# Altium integrated library Renesas Microcontroller R8C.IntLib: 628 symbols (part 15 of 33)
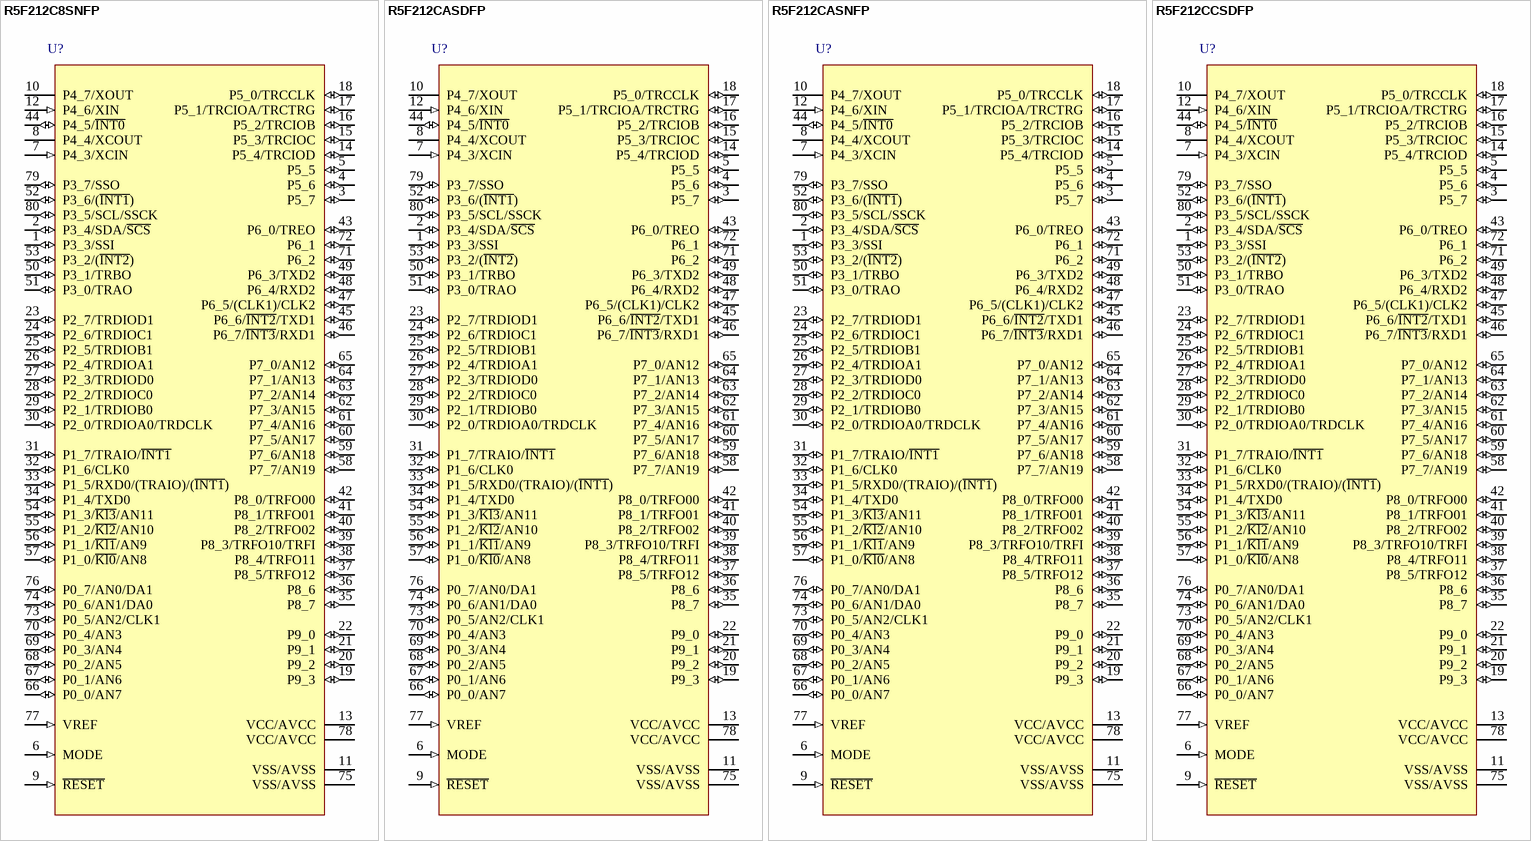
[diagram p130: symbols R5F212C8SNFP to R5F212CCSDFP]

## R5F212C8SNFP
designator U?
R8C/2C Group Single Chip 16-Bit CMOS MCU, 64K ROM, 3K RAM, N Version; Published: 30-Oct-2009; DatasheetVersion: Rev.2.10, Dec-2007; PackageVersion: Sep-2005; PackageReference: PLQP0080KB-A; Publisher: Altium Limited; PackageDescription: 80-Pin Plastic Low Profile QFP, 12 x 12 x 1.4 mm Body, 0.5 mm Pitch; Code_JEITA: P-LQFP80-12x12-0.50; Code_IPC: SQFP50P1400X1400-80; ComponentLink1Description: Manufacturer Link; ComponentLink1URL: http://sg.renesas.com/fmwk.jsp?cnt=r8c_family_landing.jsp&fp=/products/mpumcu/r8c_family/; ComponentLink2Description: Datasheet; ComponentLink2URL: http://documentation.renesas.com/eng/products/mpumcu/rej03b0183_r8c2c2dds.pdf; ComponentLink3Description: Packaging Specification; ComponentLink3URL: http://sg.renesas.com/media/products/common_info/package/pdf/ic/code/plqp0080kb_a.pdf
footprint PLQP0080KB-A_N (Shrink QFP, 80-Leads, Body 12x12mm, Pitch 0.5mm, IPC Medium Density)
footprint PLQP0080KB-A_L (Shrink QFP, 80-Leads, Body 12x12mm, Pitch 0.5mm, IPC High Density)
footprint PLQP0080KB-A_M (Shrink QFP, 80-Leads, Body 12x12mm, Pitch 0.5mm, IPC Low Density)
pins: 1 P3_3/SSI (io), 2 P3_4/SDA/~{SCS} (io), 3 P5_7 (io), 4 P5_6 (io), 5 P5_5 (io), 6 MODE (in), 7 P4_3/XCIN (in), 8 P4_4/XCOUT, 9 ~{RESET} (in), 10 P4_7/XOUT, 11 VSS/AVSS (power), 12 P4_6/XIN (in), 13 VCC/AVCC (power), 14 P5_4/TRCIOD (io), 15 P5_3/TRCIOC (io), 16 P5_2/TRCIOB (io), 17 P5_1/TRCIOA/TRCTRG (io), 18 P5_0/TRCCLK (io), 19 P9_3 (io), 20 P9_2 (io), 21 P9_1 (io), 22 P9_0 (io), 23 P2_7/TRDIOD1 (io), 24 P2_6/TRDIOC1 (io), 25 P2_5/TRDIOB1 (io), 26 P2_4/TRDIOA1 (io), 27 P2_3/TRDIOD0 (io), 28 P2_2/TRDIOC0 (io), 29 P2_1/TRDIOB0 (io), 30 P2_0/TRDIOA0/TRDCLK (io), 31 P1_7/TRAIO/~{INT1} (io), 32 P1_6/CLK0 (io), 33 P1_5/RXD0/(TRAIO)/(~{INT1}) (io), 34 P1_4/TXD0 (io), 35 P8_7 (io), 36 P8_6 (io), 37 P8_5/TRFO12 (io), 38 P8_4/TRFO11 (io), 39 P8_3/TRFO10/TRFI (io), 40 P8_2/TRFO02 (io), 41 P8_1/TRFO01 (io), 42 P8_0/TRFO00 (io), 43 P6_0/TREO (io), 44 P4_5/~{INT0} (io), 45 P6_6/~{INT2}/TXD1 (io), 46 P6_7/~{INT3}/RXD1 (io), 47 P6_5/(CLK1)/CLK2 (io), 48 P6_4/RXD2 (io), 49 P6_3/TXD2 (io), 50 P3_1/TRBO (io), 51 P3_0/TRAO (io), 52 P3_6/(~{INT1}) (io), 53 P3_2/(~{INT2}) (io), 54 P1_3/~{Kl3}/AN11 (io), 55 P1_2/~{Kl2}/AN10 (io), 56 P1_1/~{Kl1}/AN9 (io), 57 P1_0/~{Kl0}/AN8 (io), 58 P7_7/AN19 (io), 59 P7_6/AN18 (io), 60 P7_5/AN17 (io), 61 P7_4/AN16 (io), 62 P7_3/AN15 (io), 63 P7_2/AN14 (io), 64 P7_1/AN13 (io), 65 P7_0/AN12 (io), 66 P0_0/AN7 (io), 67 P0_1/AN6 (io), 68 P0_2/AN5 (io), 69 P0_3/AN4 (io), 70 P0_4/AN3 (io), 71 P6_2 (io), 72 P6_1 (io), 73 P0_5/AN2/CLK1 (io), 74 P0_6/AN1/DA0 (io), 75 VSS/AVSS (power), 76 P0_7/AN0/DA1 (io), 77 VREF (in), 78 VCC/AVCC (power), 79 P3_7/SSO (io), 80 P3_5/SCL/SSCK (io)

## R5F212CASDFP
designator U?
R8C/2C Group Single Chip 16-Bit CMOS MCU, 96K ROM, 7K RAM, D Version; Published: 30-Oct-2009; DatasheetVersion: Rev.2.10, Dec-2007; PackageVersion: Sep-2005; PackageReference: PLQP0080KB-A; Publisher: Altium Limited; PackageDescription: 80-Pin Plastic Low Profile QFP, 12 x 12 x 1.4 mm Body, 0.5 mm Pitch; Code_JEITA: P-LQFP80-12x12-0.50; Code_IPC: SQFP50P1400X1400-80; ComponentLink1Description: Manufacturer Link; ComponentLink1URL: http://sg.renesas.com/fmwk.jsp?cnt=r8c_family_landing.jsp&fp=/products/mpumcu/r8c_family/; ComponentLink2Description: Datasheet; ComponentLink2URL: http://documentation.renesas.com/eng/products/mpumcu/rej03b0183_r8c2c2dds.pdf; ComponentLink3Description: Packaging Specification; ComponentLink3URL: http://sg.renesas.com/media/products/common_info/package/pdf/ic/code/plqp0080kb_a.pdf
footprint PLQP0080KB-A_N (Shrink QFP, 80-Leads, Body 12x12mm, Pitch 0.5mm, IPC Medium Density)
footprint PLQP0080KB-A_L (Shrink QFP, 80-Leads, Body 12x12mm, Pitch 0.5mm, IPC High Density)
footprint PLQP0080KB-A_M (Shrink QFP, 80-Leads, Body 12x12mm, Pitch 0.5mm, IPC Low Density)
pins: 1 P3_3/SSI (io), 2 P3_4/SDA/~{SCS} (io), 3 P5_7 (io), 4 P5_6 (io), 5 P5_5 (io), 6 MODE (in), 7 P4_3/XCIN (in), 8 P4_4/XCOUT, 9 ~{RESET} (in), 10 P4_7/XOUT, 11 VSS/AVSS (power), 12 P4_6/XIN (in), 13 VCC/AVCC (power), 14 P5_4/TRCIOD (io), 15 P5_3/TRCIOC (io), 16 P5_2/TRCIOB (io), 17 P5_1/TRCIOA/TRCTRG (io), 18 P5_0/TRCCLK (io), 19 P9_3 (io), 20 P9_2 (io), 21 P9_1 (io), 22 P9_0 (io), 23 P2_7/TRDIOD1 (io), 24 P2_6/TRDIOC1 (io), 25 P2_5/TRDIOB1 (io), 26 P2_4/TRDIOA1 (io), 27 P2_3/TRDIOD0 (io), 28 P2_2/TRDIOC0 (io), 29 P2_1/TRDIOB0 (io), 30 P2_0/TRDIOA0/TRDCLK (io), 31 P1_7/TRAIO/~{INT1} (io), 32 P1_6/CLK0 (io), 33 P1_5/RXD0/(TRAIO)/(~{INT1}) (io), 34 P1_4/TXD0 (io), 35 P8_7 (io), 36 P8_6 (io), 37 P8_5/TRFO12 (io), 38 P8_4/TRFO11 (io), 39 P8_3/TRFO10/TRFI (io), 40 P8_2/TRFO02 (io), 41 P8_1/TRFO01 (io), 42 P8_0/TRFO00 (io), 43 P6_0/TREO (io), 44 P4_5/~{INT0} (io), 45 P6_6/~{INT2}/TXD1 (io), 46 P6_7/~{INT3}/RXD1 (io), 47 P6_5/(CLK1)/CLK2 (io), 48 P6_4/RXD2 (io), 49 P6_3/TXD2 (io), 50 P3_1/TRBO (io), 51 P3_0/TRAO (io), 52 P3_6/(~{INT1}) (io), 53 P3_2/(~{INT2}) (io), 54 P1_3/~{Kl3}/AN11 (io), 55 P1_2/~{Kl2}/AN10 (io), 56 P1_1/~{Kl1}/AN9 (io), 57 P1_0/~{Kl0}/AN8 (io), 58 P7_7/AN19 (io), 59 P7_6/AN18 (io), 60 P7_5/AN17 (io), 61 P7_4/AN16 (io), 62 P7_3/AN15 (io), 63 P7_2/AN14 (io), 64 P7_1/AN13 (io), 65 P7_0/AN12 (io), 66 P0_0/AN7 (io), 67 P0_1/AN6 (io), 68 P0_2/AN5 (io), 69 P0_3/AN4 (io), 70 P0_4/AN3 (io), 71 P6_2 (io), 72 P6_1 (io), 73 P0_5/AN2/CLK1 (io), 74 P0_6/AN1/DA0 (io), 75 VSS/AVSS (power), 76 P0_7/AN0/DA1 (io), 77 VREF (in), 78 VCC/AVCC (power), 79 P3_7/SSO (io), 80 P3_5/SCL/SSCK (io)

## R5F212CASNFP
designator U?
R8C/2C Group Single Chip 16-Bit CMOS MCU, 96K ROM, 7K RAM, N Version; Published: 30-Oct-2009; DatasheetVersion: Rev.2.10, Dec-2007; PackageVersion: Sep-2005; PackageReference: PLQP0080KB-A; Publisher: Altium Limited; PackageDescription: 80-Pin Plastic Low Profile QFP, 12 x 12 x 1.4 mm Body, 0.5 mm Pitch; Code_JEITA: P-LQFP80-12x12-0.50; Code_IPC: SQFP50P1400X1400-80; ComponentLink1Description: Manufacturer Link; ComponentLink1URL: http://sg.renesas.com/fmwk.jsp?cnt=r8c_family_landing.jsp&fp=/products/mpumcu/r8c_family/; ComponentLink2Description: Datasheet; ComponentLink2URL: http://documentation.renesas.com/eng/products/mpumcu/rej03b0183_r8c2c2dds.pdf; ComponentLink3Description: Packaging Specification; ComponentLink3URL: http://sg.renesas.com/media/products/common_info/package/pdf/ic/code/plqp0080kb_a.pdf
footprint PLQP0080KB-A_N (Shrink QFP, 80-Leads, Body 12x12mm, Pitch 0.5mm, IPC Medium Density)
footprint PLQP0080KB-A_L (Shrink QFP, 80-Leads, Body 12x12mm, Pitch 0.5mm, IPC High Density)
footprint PLQP0080KB-A_M (Shrink QFP, 80-Leads, Body 12x12mm, Pitch 0.5mm, IPC Low Density)
pins: 1 P3_3/SSI (io), 2 P3_4/SDA/~{SCS} (io), 3 P5_7 (io), 4 P5_6 (io), 5 P5_5 (io), 6 MODE (in), 7 P4_3/XCIN (in), 8 P4_4/XCOUT, 9 ~{RESET} (in), 10 P4_7/XOUT, 11 VSS/AVSS (power), 12 P4_6/XIN (in), 13 VCC/AVCC (power), 14 P5_4/TRCIOD (io), 15 P5_3/TRCIOC (io), 16 P5_2/TRCIOB (io), 17 P5_1/TRCIOA/TRCTRG (io), 18 P5_0/TRCCLK (io), 19 P9_3 (io), 20 P9_2 (io), 21 P9_1 (io), 22 P9_0 (io), 23 P2_7/TRDIOD1 (io), 24 P2_6/TRDIOC1 (io), 25 P2_5/TRDIOB1 (io), 26 P2_4/TRDIOA1 (io), 27 P2_3/TRDIOD0 (io), 28 P2_2/TRDIOC0 (io), 29 P2_1/TRDIOB0 (io), 30 P2_0/TRDIOA0/TRDCLK (io), 31 P1_7/TRAIO/~{INT1} (io), 32 P1_6/CLK0 (io), 33 P1_5/RXD0/(TRAIO)/(~{INT1}) (io), 34 P1_4/TXD0 (io), 35 P8_7 (io), 36 P8_6 (io), 37 P8_5/TRFO12 (io), 38 P8_4/TRFO11 (io), 39 P8_3/TRFO10/TRFI (io), 40 P8_2/TRFO02 (io), 41 P8_1/TRFO01 (io), 42 P8_0/TRFO00 (io), 43 P6_0/TREO (io), 44 P4_5/~{INT0} (io), 45 P6_6/~{INT2}/TXD1 (io), 46 P6_7/~{INT3}/RXD1 (io), 47 P6_5/(CLK1)/CLK2 (io), 48 P6_4/RXD2 (io), 49 P6_3/TXD2 (io), 50 P3_1/TRBO (io), 51 P3_0/TRAO (io), 52 P3_6/(~{INT1}) (io), 53 P3_2/(~{INT2}) (io), 54 P1_3/~{Kl3}/AN11 (io), 55 P1_2/~{Kl2}/AN10 (io), 56 P1_1/~{Kl1}/AN9 (io), 57 P1_0/~{Kl0}/AN8 (io), 58 P7_7/AN19 (io), 59 P7_6/AN18 (io), 60 P7_5/AN17 (io), 61 P7_4/AN16 (io), 62 P7_3/AN15 (io), 63 P7_2/AN14 (io), 64 P7_1/AN13 (io), 65 P7_0/AN12 (io), 66 P0_0/AN7 (io), 67 P0_1/AN6 (io), 68 P0_2/AN5 (io), 69 P0_3/AN4 (io), 70 P0_4/AN3 (io), 71 P6_2 (io), 72 P6_1 (io), 73 P0_5/AN2/CLK1 (io), 74 P0_6/AN1/DA0 (io), 75 VSS/AVSS (power), 76 P0_7/AN0/DA1 (io), 77 VREF (in), 78 VCC/AVCC (power), 79 P3_7/SSO (io), 80 P3_5/SCL/SSCK (io)

## R5F212CCSDFP
designator U?
R8C/2C Group Single Chip 16-Bit CMOS MCU, 128K ROM, 7.5K RAM, D Version; Published: 30-Oct-2009; DatasheetVersion: Rev.2.10, Dec-2007; PackageVersion: Sep-2005; PackageReference: PLQP0080KB-A; Publisher: Altium Limited; PackageDescription: 80-Pin Plastic Low Profile QFP, 12 x 12 x 1.4 mm Body, 0.5 mm Pitch; Code_JEITA: P-LQFP80-12x12-0.50; Code_IPC: SQFP50P1400X1400-80; ComponentLink1Description: Manufacturer Link; ComponentLink1URL: http://sg.renesas.com/fmwk.jsp?cnt=r8c_family_landing.jsp&fp=/products/mpumcu/r8c_family/; ComponentLink2Description: Datasheet; ComponentLink2URL: http://documentation.renesas.com/eng/products/mpumcu/rej03b0183_r8c2c2dds.pdf; ComponentLink3Description: Packaging Specification; ComponentLink3URL: http://sg.renesas.com/media/products/common_info/package/pdf/ic/code/plqp0080kb_a.pdf
footprint PLQP0080KB-A_N (Shrink QFP, 80-Leads, Body 12x12mm, Pitch 0.5mm, IPC Medium Density)
footprint PLQP0080KB-A_L (Shrink QFP, 80-Leads, Body 12x12mm, Pitch 0.5mm, IPC High Density)
footprint PLQP0080KB-A_M (Shrink QFP, 80-Leads, Body 12x12mm, Pitch 0.5mm, IPC Low Density)
pins: 1 P3_3/SSI (io), 2 P3_4/SDA/~{SCS} (io), 3 P5_7 (io), 4 P5_6 (io), 5 P5_5 (io), 6 MODE (in), 7 P4_3/XCIN (in), 8 P4_4/XCOUT, 9 ~{RESET} (in), 10 P4_7/XOUT, 11 VSS/AVSS (power), 12 P4_6/XIN (in), 13 VCC/AVCC (power), 14 P5_4/TRCIOD (io), 15 P5_3/TRCIOC (io), 16 P5_2/TRCIOB (io), 17 P5_1/TRCIOA/TRCTRG (io), 18 P5_0/TRCCLK (io), 19 P9_3 (io), 20 P9_2 (io), 21 P9_1 (io), 22 P9_0 (io), 23 P2_7/TRDIOD1 (io), 24 P2_6/TRDIOC1 (io), 25 P2_5/TRDIOB1 (io), 26 P2_4/TRDIOA1 (io), 27 P2_3/TRDIOD0 (io), 28 P2_2/TRDIOC0 (io), 29 P2_1/TRDIOB0 (io), 30 P2_0/TRDIOA0/TRDCLK (io), 31 P1_7/TRAIO/~{INT1} (io), 32 P1_6/CLK0 (io), 33 P1_5/RXD0/(TRAIO)/(~{INT1}) (io), 34 P1_4/TXD0 (io), 35 P8_7 (io), 36 P8_6 (io), 37 P8_5/TRFO12 (io), 38 P8_4/TRFO11 (io), 39 P8_3/TRFO10/TRFI (io), 40 P8_2/TRFO02 (io), 41 P8_1/TRFO01 (io), 42 P8_0/TRFO00 (io), 43 P6_0/TREO (io), 44 P4_5/~{INT0} (io), 45 P6_6/~{INT2}/TXD1 (io), 46 P6_7/~{INT3}/RXD1 (io), 47 P6_5/(CLK1)/CLK2 (io), 48 P6_4/RXD2 (io), 49 P6_3/TXD2 (io), 50 P3_1/TRBO (io), 51 P3_0/TRAO (io), 52 P3_6/(~{INT1}) (io), 53 P3_2/(~{INT2}) (io), 54 P1_3/~{Kl3}/AN11 (io), 55 P1_2/~{Kl2}/AN10 (io), 56 P1_1/~{Kl1}/AN9 (io), 57 P1_0/~{Kl0}/AN8 (io), 58 P7_7/AN19 (io), 59 P7_6/AN18 (io), 60 P7_5/AN17 (io), 61 P7_4/AN16 (io), 62 P7_3/AN15 (io), 63 P7_2/AN14 (io), 64 P7_1/AN13 (io), 65 P7_0/AN12 (io), 66 P0_0/AN7 (io), 67 P0_1/AN6 (io), 68 P0_2/AN5 (io), 69 P0_3/AN4 (io), 70 P0_4/AN3 (io), 71 P6_2 (io), 72 P6_1 (io), 73 P0_5/AN2/CLK1 (io), 74 P0_6/AN1/DA0 (io), 75 VSS/AVSS (power), 76 P0_7/AN0/DA1 (io), 77 VREF (in), 78 VCC/AVCC (power), 79 P3_7/SSO (io), 80 P3_5/SCL/SSCK (io)

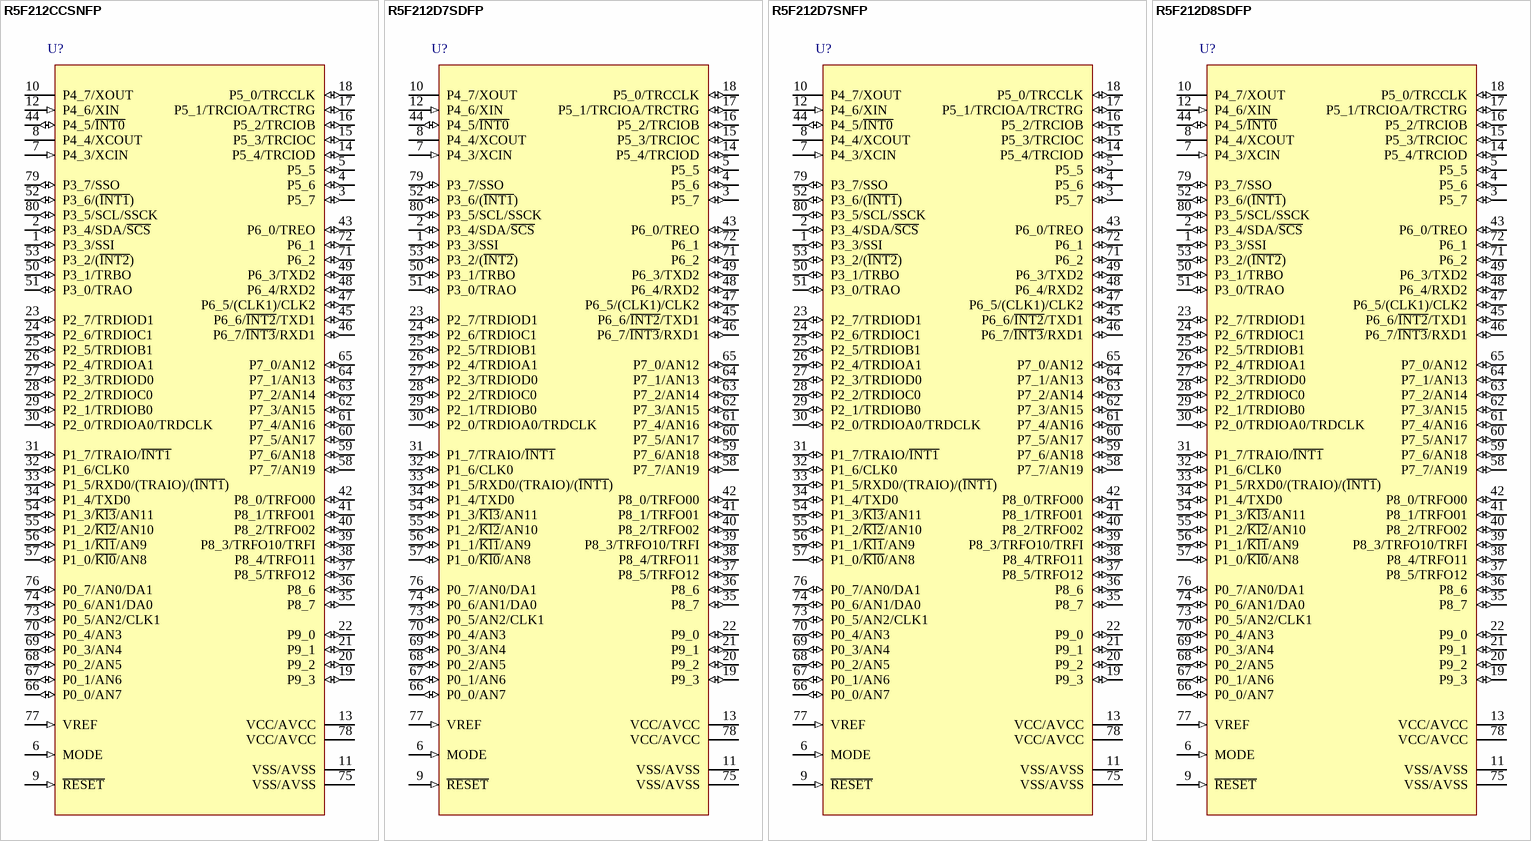
[diagram p51: symbols R5F212CCSNFP to R5F212D8SDFP]

## R5F212CCSNFP
designator U?
R8C/2C Group Single Chip 16-Bit CMOS MCU, 128K ROM, 7.5K RAM, N Version; Published: 30-Oct-2009; DatasheetVersion: Rev.2.10, Dec-2007; PackageVersion: Sep-2005; PackageReference: PLQP0080KB-A; Publisher: Altium Limited; PackageDescription: 80-Pin Plastic Low Profile QFP, 12 x 12 x 1.4 mm Body, 0.5 mm Pitch; Code_JEITA: P-LQFP80-12x12-0.50; Code_IPC: SQFP50P1400X1400-80; ComponentLink1Description: Manufacturer Link; ComponentLink1URL: http://sg.renesas.com/fmwk.jsp?cnt=r8c_family_landing.jsp&fp=/products/mpumcu/r8c_family/; ComponentLink2Description: Datasheet; ComponentLink2URL: http://documentation.renesas.com/eng/products/mpumcu/rej03b0183_r8c2c2dds.pdf; ComponentLink3Description: Packaging Specification; ComponentLink3URL: http://sg.renesas.com/media/products/common_info/package/pdf/ic/code/plqp0080kb_a.pdf
footprint PLQP0080KB-A_N (Shrink QFP, 80-Leads, Body 12x12mm, Pitch 0.5mm, IPC Medium Density)
footprint PLQP0080KB-A_L (Shrink QFP, 80-Leads, Body 12x12mm, Pitch 0.5mm, IPC High Density)
footprint PLQP0080KB-A_M (Shrink QFP, 80-Leads, Body 12x12mm, Pitch 0.5mm, IPC Low Density)
pins: 1 P3_3/SSI (io), 2 P3_4/SDA/~{SCS} (io), 3 P5_7 (io), 4 P5_6 (io), 5 P5_5 (io), 6 MODE (in), 7 P4_3/XCIN (in), 8 P4_4/XCOUT, 9 ~{RESET} (in), 10 P4_7/XOUT, 11 VSS/AVSS (power), 12 P4_6/XIN (in), 13 VCC/AVCC (power), 14 P5_4/TRCIOD (io), 15 P5_3/TRCIOC (io), 16 P5_2/TRCIOB (io), 17 P5_1/TRCIOA/TRCTRG (io), 18 P5_0/TRCCLK (io), 19 P9_3 (io), 20 P9_2 (io), 21 P9_1 (io), 22 P9_0 (io), 23 P2_7/TRDIOD1 (io), 24 P2_6/TRDIOC1 (io), 25 P2_5/TRDIOB1 (io), 26 P2_4/TRDIOA1 (io), 27 P2_3/TRDIOD0 (io), 28 P2_2/TRDIOC0 (io), 29 P2_1/TRDIOB0 (io), 30 P2_0/TRDIOA0/TRDCLK (io), 31 P1_7/TRAIO/~{INT1} (io), 32 P1_6/CLK0 (io), 33 P1_5/RXD0/(TRAIO)/(~{INT1}) (io), 34 P1_4/TXD0 (io), 35 P8_7 (io), 36 P8_6 (io), 37 P8_5/TRFO12 (io), 38 P8_4/TRFO11 (io), 39 P8_3/TRFO10/TRFI (io), 40 P8_2/TRFO02 (io), 41 P8_1/TRFO01 (io), 42 P8_0/TRFO00 (io), 43 P6_0/TREO (io), 44 P4_5/~{INT0} (io), 45 P6_6/~{INT2}/TXD1 (io), 46 P6_7/~{INT3}/RXD1 (io), 47 P6_5/(CLK1)/CLK2 (io), 48 P6_4/RXD2 (io), 49 P6_3/TXD2 (io), 50 P3_1/TRBO (io), 51 P3_0/TRAO (io), 52 P3_6/(~{INT1}) (io), 53 P3_2/(~{INT2}) (io), 54 P1_3/~{Kl3}/AN11 (io), 55 P1_2/~{Kl2}/AN10 (io), 56 P1_1/~{Kl1}/AN9 (io), 57 P1_0/~{Kl0}/AN8 (io), 58 P7_7/AN19 (io), 59 P7_6/AN18 (io), 60 P7_5/AN17 (io), 61 P7_4/AN16 (io), 62 P7_3/AN15 (io), 63 P7_2/AN14 (io), 64 P7_1/AN13 (io), 65 P7_0/AN12 (io), 66 P0_0/AN7 (io), 67 P0_1/AN6 (io), 68 P0_2/AN5 (io), 69 P0_3/AN4 (io), 70 P0_4/AN3 (io), 71 P6_2 (io), 72 P6_1 (io), 73 P0_5/AN2/CLK1 (io), 74 P0_6/AN1/DA0 (io), 75 VSS/AVSS (power), 76 P0_7/AN0/DA1 (io), 77 VREF (in), 78 VCC/AVCC (power), 79 P3_7/SSO (io), 80 P3_5/SCL/SSCK (io)

## R5F212D7SDFP
designator U?
R8C/2D Group Single Chip 16-Bit CMOS MCU, 48K ROM + 1K x2 Data Flash, 2.5K RAM, D Version; Published: 30-Oct-2009; DatasheetVersion: Rev.2.10, Dec-2007; PackageVersion: Sep-2005; PackageReference: PLQP0080KB-A; Publisher: Altium Limited; PackageDescription: 80-Pin Plastic Low Profile QFP, 12 x 12 x 1.4 mm Body, 0.5 mm Pitch; Code_JEITA: P-LQFP80-12x12-0.50; Code_IPC: SQFP50P1400X1400-80; ComponentLink1Description: Manufacturer Link; ComponentLink1URL: http://sg.renesas.com/fmwk.jsp?cnt=r8c_family_landing.jsp&fp=/products/mpumcu/r8c_family/; ComponentLink2Description: Datasheet; ComponentLink2URL: http://documentation.renesas.com/eng/products/mpumcu/rej03b0183_r8c2c2dds.pdf; ComponentLink3Description: Packaging Specification; ComponentLink3URL: http://sg.renesas.com/media/products/common_info/package/pdf/ic/code/plqp0080kb_a.pdf
footprint PLQP0080KB-A_N (Shrink QFP, 80-Leads, Body 12x12mm, Pitch 0.5mm, IPC Medium Density)
footprint PLQP0080KB-A_L (Shrink QFP, 80-Leads, Body 12x12mm, Pitch 0.5mm, IPC High Density)
footprint PLQP0080KB-A_M (Shrink QFP, 80-Leads, Body 12x12mm, Pitch 0.5mm, IPC Low Density)
pins: 1 P3_3/SSI (io), 2 P3_4/SDA/~{SCS} (io), 3 P5_7 (io), 4 P5_6 (io), 5 P5_5 (io), 6 MODE (in), 7 P4_3/XCIN (in), 8 P4_4/XCOUT, 9 ~{RESET} (in), 10 P4_7/XOUT, 11 VSS/AVSS (power), 12 P4_6/XIN (in), 13 VCC/AVCC (power), 14 P5_4/TRCIOD (io), 15 P5_3/TRCIOC (io), 16 P5_2/TRCIOB (io), 17 P5_1/TRCIOA/TRCTRG (io), 18 P5_0/TRCCLK (io), 19 P9_3 (io), 20 P9_2 (io), 21 P9_1 (io), 22 P9_0 (io), 23 P2_7/TRDIOD1 (io), 24 P2_6/TRDIOC1 (io), 25 P2_5/TRDIOB1 (io), 26 P2_4/TRDIOA1 (io), 27 P2_3/TRDIOD0 (io), 28 P2_2/TRDIOC0 (io), 29 P2_1/TRDIOB0 (io), 30 P2_0/TRDIOA0/TRDCLK (io), 31 P1_7/TRAIO/~{INT1} (io), 32 P1_6/CLK0 (io), 33 P1_5/RXD0/(TRAIO)/(~{INT1}) (io), 34 P1_4/TXD0 (io), 35 P8_7 (io), 36 P8_6 (io), 37 P8_5/TRFO12 (io), 38 P8_4/TRFO11 (io), 39 P8_3/TRFO10/TRFI (io), 40 P8_2/TRFO02 (io), 41 P8_1/TRFO01 (io), 42 P8_0/TRFO00 (io), 43 P6_0/TREO (io), 44 P4_5/~{INT0} (io), 45 P6_6/~{INT2}/TXD1 (io), 46 P6_7/~{INT3}/RXD1 (io), 47 P6_5/(CLK1)/CLK2 (io), 48 P6_4/RXD2 (io), 49 P6_3/TXD2 (io), 50 P3_1/TRBO (io), 51 P3_0/TRAO (io), 52 P3_6/(~{INT1}) (io), 53 P3_2/(~{INT2}) (io), 54 P1_3/~{Kl3}/AN11 (io), 55 P1_2/~{Kl2}/AN10 (io), 56 P1_1/~{Kl1}/AN9 (io), 57 P1_0/~{Kl0}/AN8 (io), 58 P7_7/AN19 (io), 59 P7_6/AN18 (io), 60 P7_5/AN17 (io), 61 P7_4/AN16 (io), 62 P7_3/AN15 (io), 63 P7_2/AN14 (io), 64 P7_1/AN13 (io), 65 P7_0/AN12 (io), 66 P0_0/AN7 (io), 67 P0_1/AN6 (io), 68 P0_2/AN5 (io), 69 P0_3/AN4 (io), 70 P0_4/AN3 (io), 71 P6_2 (io), 72 P6_1 (io), 73 P0_5/AN2/CLK1 (io), 74 P0_6/AN1/DA0 (io), 75 VSS/AVSS (power), 76 P0_7/AN0/DA1 (io), 77 VREF (in), 78 VCC/AVCC (power), 79 P3_7/SSO (io), 80 P3_5/SCL/SSCK (io)

## R5F212D7SNFP
designator U?
R8C/2D Group Single Chip 16-Bit CMOS MCU, 48K ROM + 1K x2 Data Flash, 2.5K RAM, N Version; Published: 30-Oct-2009; DatasheetVersion: Rev.2.10, Dec-2007; PackageVersion: Sep-2005; PackageReference: PLQP0080KB-A; Publisher: Altium Limited; PackageDescription: 80-Pin Plastic Low Profile QFP, 12 x 12 x 1.4 mm Body, 0.5 mm Pitch; Code_JEITA: P-LQFP80-12x12-0.50; Code_IPC: SQFP50P1400X1400-80; ComponentLink1Description: Manufacturer Link; ComponentLink1URL: http://sg.renesas.com/fmwk.jsp?cnt=r8c_family_landing.jsp&fp=/products/mpumcu/r8c_family/; ComponentLink2Description: Datasheet; ComponentLink2URL: http://documentation.renesas.com/eng/products/mpumcu/rej03b0183_r8c2c2dds.pdf; ComponentLink3Description: Packaging Specification; ComponentLink3URL: http://sg.renesas.com/media/products/common_info/package/pdf/ic/code/plqp0080kb_a.pdf
footprint PLQP0080KB-A_N (Shrink QFP, 80-Leads, Body 12x12mm, Pitch 0.5mm, IPC Medium Density)
footprint PLQP0080KB-A_L (Shrink QFP, 80-Leads, Body 12x12mm, Pitch 0.5mm, IPC High Density)
footprint PLQP0080KB-A_M (Shrink QFP, 80-Leads, Body 12x12mm, Pitch 0.5mm, IPC Low Density)
pins: 1 P3_3/SSI (io), 2 P3_4/SDA/~{SCS} (io), 3 P5_7 (io), 4 P5_6 (io), 5 P5_5 (io), 6 MODE (in), 7 P4_3/XCIN (in), 8 P4_4/XCOUT, 9 ~{RESET} (in), 10 P4_7/XOUT, 11 VSS/AVSS (power), 12 P4_6/XIN (in), 13 VCC/AVCC (power), 14 P5_4/TRCIOD (io), 15 P5_3/TRCIOC (io), 16 P5_2/TRCIOB (io), 17 P5_1/TRCIOA/TRCTRG (io), 18 P5_0/TRCCLK (io), 19 P9_3 (io), 20 P9_2 (io), 21 P9_1 (io), 22 P9_0 (io), 23 P2_7/TRDIOD1 (io), 24 P2_6/TRDIOC1 (io), 25 P2_5/TRDIOB1 (io), 26 P2_4/TRDIOA1 (io), 27 P2_3/TRDIOD0 (io), 28 P2_2/TRDIOC0 (io), 29 P2_1/TRDIOB0 (io), 30 P2_0/TRDIOA0/TRDCLK (io), 31 P1_7/TRAIO/~{INT1} (io), 32 P1_6/CLK0 (io), 33 P1_5/RXD0/(TRAIO)/(~{INT1}) (io), 34 P1_4/TXD0 (io), 35 P8_7 (io), 36 P8_6 (io), 37 P8_5/TRFO12 (io), 38 P8_4/TRFO11 (io), 39 P8_3/TRFO10/TRFI (io), 40 P8_2/TRFO02 (io), 41 P8_1/TRFO01 (io), 42 P8_0/TRFO00 (io), 43 P6_0/TREO (io), 44 P4_5/~{INT0} (io), 45 P6_6/~{INT2}/TXD1 (io), 46 P6_7/~{INT3}/RXD1 (io), 47 P6_5/(CLK1)/CLK2 (io), 48 P6_4/RXD2 (io), 49 P6_3/TXD2 (io), 50 P3_1/TRBO (io), 51 P3_0/TRAO (io), 52 P3_6/(~{INT1}) (io), 53 P3_2/(~{INT2}) (io), 54 P1_3/~{Kl3}/AN11 (io), 55 P1_2/~{Kl2}/AN10 (io), 56 P1_1/~{Kl1}/AN9 (io), 57 P1_0/~{Kl0}/AN8 (io), 58 P7_7/AN19 (io), 59 P7_6/AN18 (io), 60 P7_5/AN17 (io), 61 P7_4/AN16 (io), 62 P7_3/AN15 (io), 63 P7_2/AN14 (io), 64 P7_1/AN13 (io), 65 P7_0/AN12 (io), 66 P0_0/AN7 (io), 67 P0_1/AN6 (io), 68 P0_2/AN5 (io), 69 P0_3/AN4 (io), 70 P0_4/AN3 (io), 71 P6_2 (io), 72 P6_1 (io), 73 P0_5/AN2/CLK1 (io), 74 P0_6/AN1/DA0 (io), 75 VSS/AVSS (power), 76 P0_7/AN0/DA1 (io), 77 VREF (in), 78 VCC/AVCC (power), 79 P3_7/SSO (io), 80 P3_5/SCL/SSCK (io)

## R5F212D8SDFP
designator U?
R8C/2D Group Single Chip 16-Bit CMOS MCU, 64K ROM + 1K x2 Data Flash, 3K RAM, D Version; Published: 30-Oct-2009; DatasheetVersion: Rev.2.10, Dec-2007; PackageVersion: Sep-2005; PackageReference: PLQP0080KB-A; Publisher: Altium Limited; PackageDescription: 80-Pin Plastic Low Profile QFP, 12 x 12 x 1.4 mm Body, 0.5 mm Pitch; Code_JEITA: P-LQFP80-12x12-0.50; Code_IPC: SQFP50P1400X1400-80; ComponentLink1Description: Manufacturer Link; ComponentLink1URL: http://sg.renesas.com/fmwk.jsp?cnt=r8c_family_landing.jsp&fp=/products/mpumcu/r8c_family/; ComponentLink2Description: Datasheet; ComponentLink2URL: http://documentation.renesas.com/eng/products/mpumcu/rej03b0183_r8c2c2dds.pdf; ComponentLink3Description: Packaging Specification; ComponentLink3URL: http://sg.renesas.com/media/products/common_info/package/pdf/ic/code/plqp0080kb_a.pdf
footprint PLQP0080KB-A_N (Shrink QFP, 80-Leads, Body 12x12mm, Pitch 0.5mm, IPC Medium Density)
footprint PLQP0080KB-A_L (Shrink QFP, 80-Leads, Body 12x12mm, Pitch 0.5mm, IPC High Density)
footprint PLQP0080KB-A_M (Shrink QFP, 80-Leads, Body 12x12mm, Pitch 0.5mm, IPC Low Density)
pins: 1 P3_3/SSI (io), 2 P3_4/SDA/~{SCS} (io), 3 P5_7 (io), 4 P5_6 (io), 5 P5_5 (io), 6 MODE (in), 7 P4_3/XCIN (in), 8 P4_4/XCOUT, 9 ~{RESET} (in), 10 P4_7/XOUT, 11 VSS/AVSS (power), 12 P4_6/XIN (in), 13 VCC/AVCC (power), 14 P5_4/TRCIOD (io), 15 P5_3/TRCIOC (io), 16 P5_2/TRCIOB (io), 17 P5_1/TRCIOA/TRCTRG (io), 18 P5_0/TRCCLK (io), 19 P9_3 (io), 20 P9_2 (io), 21 P9_1 (io), 22 P9_0 (io), 23 P2_7/TRDIOD1 (io), 24 P2_6/TRDIOC1 (io), 25 P2_5/TRDIOB1 (io), 26 P2_4/TRDIOA1 (io), 27 P2_3/TRDIOD0 (io), 28 P2_2/TRDIOC0 (io), 29 P2_1/TRDIOB0 (io), 30 P2_0/TRDIOA0/TRDCLK (io), 31 P1_7/TRAIO/~{INT1} (io), 32 P1_6/CLK0 (io), 33 P1_5/RXD0/(TRAIO)/(~{INT1}) (io), 34 P1_4/TXD0 (io), 35 P8_7 (io), 36 P8_6 (io), 37 P8_5/TRFO12 (io), 38 P8_4/TRFO11 (io), 39 P8_3/TRFO10/TRFI (io), 40 P8_2/TRFO02 (io), 41 P8_1/TRFO01 (io), 42 P8_0/TRFO00 (io), 43 P6_0/TREO (io), 44 P4_5/~{INT0} (io), 45 P6_6/~{INT2}/TXD1 (io), 46 P6_7/~{INT3}/RXD1 (io), 47 P6_5/(CLK1)/CLK2 (io), 48 P6_4/RXD2 (io), 49 P6_3/TXD2 (io), 50 P3_1/TRBO (io), 51 P3_0/TRAO (io), 52 P3_6/(~{INT1}) (io), 53 P3_2/(~{INT2}) (io), 54 P1_3/~{Kl3}/AN11 (io), 55 P1_2/~{Kl2}/AN10 (io), 56 P1_1/~{Kl1}/AN9 (io), 57 P1_0/~{Kl0}/AN8 (io), 58 P7_7/AN19 (io), 59 P7_6/AN18 (io), 60 P7_5/AN17 (io), 61 P7_4/AN16 (io), 62 P7_3/AN15 (io), 63 P7_2/AN14 (io), 64 P7_1/AN13 (io), 65 P7_0/AN12 (io), 66 P0_0/AN7 (io), 67 P0_1/AN6 (io), 68 P0_2/AN5 (io), 69 P0_3/AN4 (io), 70 P0_4/AN3 (io), 71 P6_2 (io), 72 P6_1 (io), 73 P0_5/AN2/CLK1 (io), 74 P0_6/AN1/DA0 (io), 75 VSS/AVSS (power), 76 P0_7/AN0/DA1 (io), 77 VREF (in), 78 VCC/AVCC (power), 79 P3_7/SSO (io), 80 P3_5/SCL/SSCK (io)

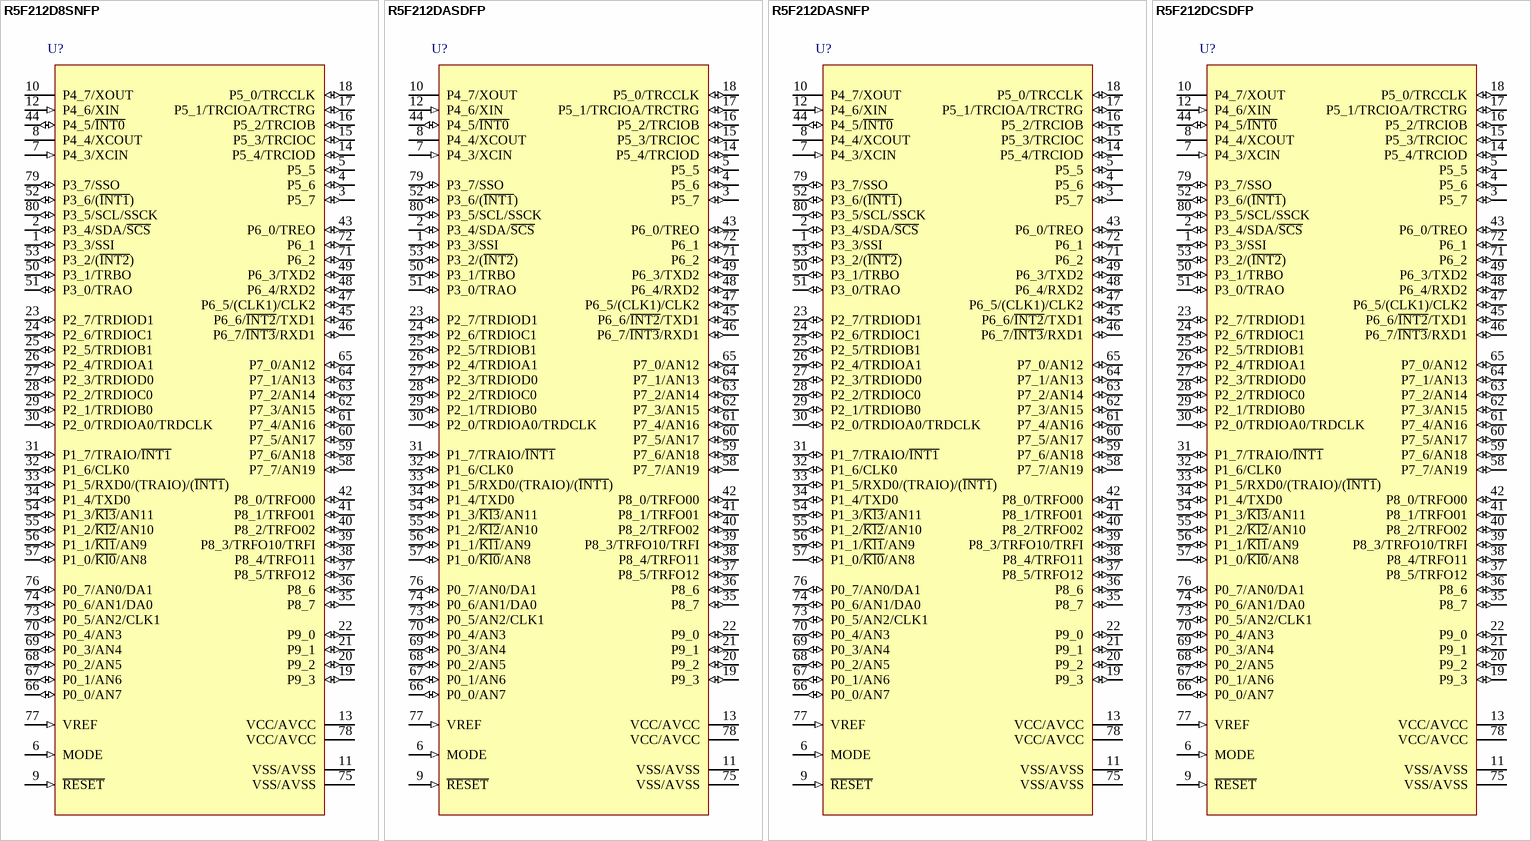
[diagram p52: symbols R5F212D8SNFP to R5F212DCSDFP]

## R5F212D8SNFP
designator U?
R8C/2D Group Single Chip 16-Bit CMOS MCU, 64K ROM + 1K x2 Data Flash, 3K RAM, N Version; Published: 30-Oct-2009; DatasheetVersion: Rev.2.10, Dec-2007; PackageVersion: Sep-2005; PackageReference: PLQP0080KB-A; Publisher: Altium Limited; PackageDescription: 80-Pin Plastic Low Profile QFP, 12 x 12 x 1.4 mm Body, 0.5 mm Pitch; Code_JEITA: P-LQFP80-12x12-0.50; Code_IPC: SQFP50P1400X1400-80; ComponentLink1Description: Manufacturer Link; ComponentLink1URL: http://sg.renesas.com/fmwk.jsp?cnt=r8c_family_landing.jsp&fp=/products/mpumcu/r8c_family/; ComponentLink2Description: Datasheet; ComponentLink2URL: http://documentation.renesas.com/eng/products/mpumcu/rej03b0183_r8c2c2dds.pdf; ComponentLink3Description: Packaging Specification; ComponentLink3URL: http://sg.renesas.com/media/products/common_info/package/pdf/ic/code/plqp0080kb_a.pdf
footprint PLQP0080KB-A_N (Shrink QFP, 80-Leads, Body 12x12mm, Pitch 0.5mm, IPC Medium Density)
footprint PLQP0080KB-A_L (Shrink QFP, 80-Leads, Body 12x12mm, Pitch 0.5mm, IPC High Density)
footprint PLQP0080KB-A_M (Shrink QFP, 80-Leads, Body 12x12mm, Pitch 0.5mm, IPC Low Density)
pins: 1 P3_3/SSI (io), 2 P3_4/SDA/~{SCS} (io), 3 P5_7 (io), 4 P5_6 (io), 5 P5_5 (io), 6 MODE (in), 7 P4_3/XCIN (in), 8 P4_4/XCOUT, 9 ~{RESET} (in), 10 P4_7/XOUT, 11 VSS/AVSS (power), 12 P4_6/XIN (in), 13 VCC/AVCC (power), 14 P5_4/TRCIOD (io), 15 P5_3/TRCIOC (io), 16 P5_2/TRCIOB (io), 17 P5_1/TRCIOA/TRCTRG (io), 18 P5_0/TRCCLK (io), 19 P9_3 (io), 20 P9_2 (io), 21 P9_1 (io), 22 P9_0 (io), 23 P2_7/TRDIOD1 (io), 24 P2_6/TRDIOC1 (io), 25 P2_5/TRDIOB1 (io), 26 P2_4/TRDIOA1 (io), 27 P2_3/TRDIOD0 (io), 28 P2_2/TRDIOC0 (io), 29 P2_1/TRDIOB0 (io), 30 P2_0/TRDIOA0/TRDCLK (io), 31 P1_7/TRAIO/~{INT1} (io), 32 P1_6/CLK0 (io), 33 P1_5/RXD0/(TRAIO)/(~{INT1}) (io), 34 P1_4/TXD0 (io), 35 P8_7 (io), 36 P8_6 (io), 37 P8_5/TRFO12 (io), 38 P8_4/TRFO11 (io), 39 P8_3/TRFO10/TRFI (io), 40 P8_2/TRFO02 (io), 41 P8_1/TRFO01 (io), 42 P8_0/TRFO00 (io), 43 P6_0/TREO (io), 44 P4_5/~{INT0} (io), 45 P6_6/~{INT2}/TXD1 (io), 46 P6_7/~{INT3}/RXD1 (io), 47 P6_5/(CLK1)/CLK2 (io), 48 P6_4/RXD2 (io), 49 P6_3/TXD2 (io), 50 P3_1/TRBO (io), 51 P3_0/TRAO (io), 52 P3_6/(~{INT1}) (io), 53 P3_2/(~{INT2}) (io), 54 P1_3/~{Kl3}/AN11 (io), 55 P1_2/~{Kl2}/AN10 (io), 56 P1_1/~{Kl1}/AN9 (io), 57 P1_0/~{Kl0}/AN8 (io), 58 P7_7/AN19 (io), 59 P7_6/AN18 (io), 60 P7_5/AN17 (io), 61 P7_4/AN16 (io), 62 P7_3/AN15 (io), 63 P7_2/AN14 (io), 64 P7_1/AN13 (io), 65 P7_0/AN12 (io), 66 P0_0/AN7 (io), 67 P0_1/AN6 (io), 68 P0_2/AN5 (io), 69 P0_3/AN4 (io), 70 P0_4/AN3 (io), 71 P6_2 (io), 72 P6_1 (io), 73 P0_5/AN2/CLK1 (io), 74 P0_6/AN1/DA0 (io), 75 VSS/AVSS (power), 76 P0_7/AN0/DA1 (io), 77 VREF (in), 78 VCC/AVCC (power), 79 P3_7/SSO (io), 80 P3_5/SCL/SSCK (io)

## R5F212DASDFP
designator U?
R8C/2D Group Single Chip 16-Bit CMOS MCU, 96K ROM + 1K x2 Data Flash, 7K RAM, D Version; Published: 30-Oct-2009; DatasheetVersion: Rev.2.10, Dec-2007; PackageVersion: Sep-2005; PackageReference: PLQP0080KB-A; Publisher: Altium Limited; PackageDescription: 80-Pin Plastic Low Profile QFP, 12 x 12 x 1.4 mm Body, 0.5 mm Pitch; Code_JEITA: P-LQFP80-12x12-0.50; Code_IPC: SQFP50P1400X1400-80; ComponentLink1Description: Manufacturer Link; ComponentLink1URL: http://sg.renesas.com/fmwk.jsp?cnt=r8c_family_landing.jsp&fp=/products/mpumcu/r8c_family/; ComponentLink2Description: Datasheet; ComponentLink2URL: http://documentation.renesas.com/eng/products/mpumcu/rej03b0183_r8c2c2dds.pdf; ComponentLink3Description: Packaging Specification; ComponentLink3URL: http://sg.renesas.com/media/products/common_info/package/pdf/ic/code/plqp0080kb_a.pdf
footprint PLQP0080KB-A_N (Shrink QFP, 80-Leads, Body 12x12mm, Pitch 0.5mm, IPC Medium Density)
footprint PLQP0080KB-A_L (Shrink QFP, 80-Leads, Body 12x12mm, Pitch 0.5mm, IPC High Density)
footprint PLQP0080KB-A_M (Shrink QFP, 80-Leads, Body 12x12mm, Pitch 0.5mm, IPC Low Density)
pins: 1 P3_3/SSI (io), 2 P3_4/SDA/~{SCS} (io), 3 P5_7 (io), 4 P5_6 (io), 5 P5_5 (io), 6 MODE (in), 7 P4_3/XCIN (in), 8 P4_4/XCOUT, 9 ~{RESET} (in), 10 P4_7/XOUT, 11 VSS/AVSS (power), 12 P4_6/XIN (in), 13 VCC/AVCC (power), 14 P5_4/TRCIOD (io), 15 P5_3/TRCIOC (io), 16 P5_2/TRCIOB (io), 17 P5_1/TRCIOA/TRCTRG (io), 18 P5_0/TRCCLK (io), 19 P9_3 (io), 20 P9_2 (io), 21 P9_1 (io), 22 P9_0 (io), 23 P2_7/TRDIOD1 (io), 24 P2_6/TRDIOC1 (io), 25 P2_5/TRDIOB1 (io), 26 P2_4/TRDIOA1 (io), 27 P2_3/TRDIOD0 (io), 28 P2_2/TRDIOC0 (io), 29 P2_1/TRDIOB0 (io), 30 P2_0/TRDIOA0/TRDCLK (io), 31 P1_7/TRAIO/~{INT1} (io), 32 P1_6/CLK0 (io), 33 P1_5/RXD0/(TRAIO)/(~{INT1}) (io), 34 P1_4/TXD0 (io), 35 P8_7 (io), 36 P8_6 (io), 37 P8_5/TRFO12 (io), 38 P8_4/TRFO11 (io), 39 P8_3/TRFO10/TRFI (io), 40 P8_2/TRFO02 (io), 41 P8_1/TRFO01 (io), 42 P8_0/TRFO00 (io), 43 P6_0/TREO (io), 44 P4_5/~{INT0} (io), 45 P6_6/~{INT2}/TXD1 (io), 46 P6_7/~{INT3}/RXD1 (io), 47 P6_5/(CLK1)/CLK2 (io), 48 P6_4/RXD2 (io), 49 P6_3/TXD2 (io), 50 P3_1/TRBO (io), 51 P3_0/TRAO (io), 52 P3_6/(~{INT1}) (io), 53 P3_2/(~{INT2}) (io), 54 P1_3/~{Kl3}/AN11 (io), 55 P1_2/~{Kl2}/AN10 (io), 56 P1_1/~{Kl1}/AN9 (io), 57 P1_0/~{Kl0}/AN8 (io), 58 P7_7/AN19 (io), 59 P7_6/AN18 (io), 60 P7_5/AN17 (io), 61 P7_4/AN16 (io), 62 P7_3/AN15 (io), 63 P7_2/AN14 (io), 64 P7_1/AN13 (io), 65 P7_0/AN12 (io), 66 P0_0/AN7 (io), 67 P0_1/AN6 (io), 68 P0_2/AN5 (io), 69 P0_3/AN4 (io), 70 P0_4/AN3 (io), 71 P6_2 (io), 72 P6_1 (io), 73 P0_5/AN2/CLK1 (io), 74 P0_6/AN1/DA0 (io), 75 VSS/AVSS (power), 76 P0_7/AN0/DA1 (io), 77 VREF (in), 78 VCC/AVCC (power), 79 P3_7/SSO (io), 80 P3_5/SCL/SSCK (io)

## R5F212DASNFP
designator U?
R8C/2D Group Single Chip 16-Bit CMOS MCU, 96K ROM + 1K x2 Data Flash, 7K RAM, N Version; Published: 30-Oct-2009; DatasheetVersion: Rev.2.10, Dec-2007; PackageVersion: Sep-2005; PackageReference: PLQP0080KB-A; Publisher: Altium Limited; PackageDescription: 80-Pin Plastic Low Profile QFP, 12 x 12 x 1.4 mm Body, 0.5 mm Pitch; Code_JEITA: P-LQFP80-12x12-0.50; Code_IPC: SQFP50P1400X1400-80; ComponentLink1Description: Manufacturer Link; ComponentLink1URL: http://sg.renesas.com/fmwk.jsp?cnt=r8c_family_landing.jsp&fp=/products/mpumcu/r8c_family/; ComponentLink2Description: Datasheet; ComponentLink2URL: http://documentation.renesas.com/eng/products/mpumcu/rej03b0183_r8c2c2dds.pdf; ComponentLink3Description: Packaging Specification; ComponentLink3URL: http://sg.renesas.com/media/products/common_info/package/pdf/ic/code/plqp0080kb_a.pdf
footprint PLQP0080KB-A_N (Shrink QFP, 80-Leads, Body 12x12mm, Pitch 0.5mm, IPC Medium Density)
footprint PLQP0080KB-A_L (Shrink QFP, 80-Leads, Body 12x12mm, Pitch 0.5mm, IPC High Density)
footprint PLQP0080KB-A_M (Shrink QFP, 80-Leads, Body 12x12mm, Pitch 0.5mm, IPC Low Density)
pins: 1 P3_3/SSI (io), 2 P3_4/SDA/~{SCS} (io), 3 P5_7 (io), 4 P5_6 (io), 5 P5_5 (io), 6 MODE (in), 7 P4_3/XCIN (in), 8 P4_4/XCOUT, 9 ~{RESET} (in), 10 P4_7/XOUT, 11 VSS/AVSS (power), 12 P4_6/XIN (in), 13 VCC/AVCC (power), 14 P5_4/TRCIOD (io), 15 P5_3/TRCIOC (io), 16 P5_2/TRCIOB (io), 17 P5_1/TRCIOA/TRCTRG (io), 18 P5_0/TRCCLK (io), 19 P9_3 (io), 20 P9_2 (io), 21 P9_1 (io), 22 P9_0 (io), 23 P2_7/TRDIOD1 (io), 24 P2_6/TRDIOC1 (io), 25 P2_5/TRDIOB1 (io), 26 P2_4/TRDIOA1 (io), 27 P2_3/TRDIOD0 (io), 28 P2_2/TRDIOC0 (io), 29 P2_1/TRDIOB0 (io), 30 P2_0/TRDIOA0/TRDCLK (io), 31 P1_7/TRAIO/~{INT1} (io), 32 P1_6/CLK0 (io), 33 P1_5/RXD0/(TRAIO)/(~{INT1}) (io), 34 P1_4/TXD0 (io), 35 P8_7 (io), 36 P8_6 (io), 37 P8_5/TRFO12 (io), 38 P8_4/TRFO11 (io), 39 P8_3/TRFO10/TRFI (io), 40 P8_2/TRFO02 (io), 41 P8_1/TRFO01 (io), 42 P8_0/TRFO00 (io), 43 P6_0/TREO (io), 44 P4_5/~{INT0} (io), 45 P6_6/~{INT2}/TXD1 (io), 46 P6_7/~{INT3}/RXD1 (io), 47 P6_5/(CLK1)/CLK2 (io), 48 P6_4/RXD2 (io), 49 P6_3/TXD2 (io), 50 P3_1/TRBO (io), 51 P3_0/TRAO (io), 52 P3_6/(~{INT1}) (io), 53 P3_2/(~{INT2}) (io), 54 P1_3/~{Kl3}/AN11 (io), 55 P1_2/~{Kl2}/AN10 (io), 56 P1_1/~{Kl1}/AN9 (io), 57 P1_0/~{Kl0}/AN8 (io), 58 P7_7/AN19 (io), 59 P7_6/AN18 (io), 60 P7_5/AN17 (io), 61 P7_4/AN16 (io), 62 P7_3/AN15 (io), 63 P7_2/AN14 (io), 64 P7_1/AN13 (io), 65 P7_0/AN12 (io), 66 P0_0/AN7 (io), 67 P0_1/AN6 (io), 68 P0_2/AN5 (io), 69 P0_3/AN4 (io), 70 P0_4/AN3 (io), 71 P6_2 (io), 72 P6_1 (io), 73 P0_5/AN2/CLK1 (io), 74 P0_6/AN1/DA0 (io), 75 VSS/AVSS (power), 76 P0_7/AN0/DA1 (io), 77 VREF (in), 78 VCC/AVCC (power), 79 P3_7/SSO (io), 80 P3_5/SCL/SSCK (io)

## R5F212DCSDFP
designator U?
R8C/2D Group Single Chip 16-Bit CMOS MCU, 128K ROM + 1K x2 Data Flash, 7.5K RAM, D Version; Published: 30-Oct-2009; DatasheetVersion: Rev.2.10, Dec-2007; PackageVersion: Sep-2005; PackageReference: PLQP0080KB-A; Publisher: Altium Limited; PackageDescription: 80-Pin Plastic Low Profile QFP, 12 x 12 x 1.4 mm Body, 0.5 mm Pitch; Code_JEITA: P-LQFP80-12x12-0.50; Code_IPC: SQFP50P1400X1400-80; ComponentLink1Description: Manufacturer Link; ComponentLink1URL: http://sg.renesas.com/fmwk.jsp?cnt=r8c_family_landing.jsp&fp=/products/mpumcu/r8c_family/; ComponentLink2Description: Datasheet; ComponentLink2URL: http://documentation.renesas.com/eng/products/mpumcu/rej03b0183_r8c2c2dds.pdf; ComponentLink3Description: Packaging Specification; ComponentLink3URL: http://sg.renesas.com/media/products/common_info/package/pdf/ic/code/plqp0080kb_a.pdf
footprint PLQP0080KB-A_N (Shrink QFP, 80-Leads, Body 12x12mm, Pitch 0.5mm, IPC Medium Density)
footprint PLQP0080KB-A_L (Shrink QFP, 80-Leads, Body 12x12mm, Pitch 0.5mm, IPC High Density)
footprint PLQP0080KB-A_M (Shrink QFP, 80-Leads, Body 12x12mm, Pitch 0.5mm, IPC Low Density)
pins: 1 P3_3/SSI (io), 2 P3_4/SDA/~{SCS} (io), 3 P5_7 (io), 4 P5_6 (io), 5 P5_5 (io), 6 MODE (in), 7 P4_3/XCIN (in), 8 P4_4/XCOUT, 9 ~{RESET} (in), 10 P4_7/XOUT, 11 VSS/AVSS (power), 12 P4_6/XIN (in), 13 VCC/AVCC (power), 14 P5_4/TRCIOD (io), 15 P5_3/TRCIOC (io), 16 P5_2/TRCIOB (io), 17 P5_1/TRCIOA/TRCTRG (io), 18 P5_0/TRCCLK (io), 19 P9_3 (io), 20 P9_2 (io), 21 P9_1 (io), 22 P9_0 (io), 23 P2_7/TRDIOD1 (io), 24 P2_6/TRDIOC1 (io), 25 P2_5/TRDIOB1 (io), 26 P2_4/TRDIOA1 (io), 27 P2_3/TRDIOD0 (io), 28 P2_2/TRDIOC0 (io), 29 P2_1/TRDIOB0 (io), 30 P2_0/TRDIOA0/TRDCLK (io), 31 P1_7/TRAIO/~{INT1} (io), 32 P1_6/CLK0 (io), 33 P1_5/RXD0/(TRAIO)/(~{INT1}) (io), 34 P1_4/TXD0 (io), 35 P8_7 (io), 36 P8_6 (io), 37 P8_5/TRFO12 (io), 38 P8_4/TRFO11 (io), 39 P8_3/TRFO10/TRFI (io), 40 P8_2/TRFO02 (io), 41 P8_1/TRFO01 (io), 42 P8_0/TRFO00 (io), 43 P6_0/TREO (io), 44 P4_5/~{INT0} (io), 45 P6_6/~{INT2}/TXD1 (io), 46 P6_7/~{INT3}/RXD1 (io), 47 P6_5/(CLK1)/CLK2 (io), 48 P6_4/RXD2 (io), 49 P6_3/TXD2 (io), 50 P3_1/TRBO (io), 51 P3_0/TRAO (io), 52 P3_6/(~{INT1}) (io), 53 P3_2/(~{INT2}) (io), 54 P1_3/~{Kl3}/AN11 (io), 55 P1_2/~{Kl2}/AN10 (io), 56 P1_1/~{Kl1}/AN9 (io), 57 P1_0/~{Kl0}/AN8 (io), 58 P7_7/AN19 (io), 59 P7_6/AN18 (io), 60 P7_5/AN17 (io), 61 P7_4/AN16 (io), 62 P7_3/AN15 (io), 63 P7_2/AN14 (io), 64 P7_1/AN13 (io), 65 P7_0/AN12 (io), 66 P0_0/AN7 (io), 67 P0_1/AN6 (io), 68 P0_2/AN5 (io), 69 P0_3/AN4 (io), 70 P0_4/AN3 (io), 71 P6_2 (io), 72 P6_1 (io), 73 P0_5/AN2/CLK1 (io), 74 P0_6/AN1/DA0 (io), 75 VSS/AVSS (power), 76 P0_7/AN0/DA1 (io), 77 VREF (in), 78 VCC/AVCC (power), 79 P3_7/SSO (io), 80 P3_5/SCL/SSCK (io)

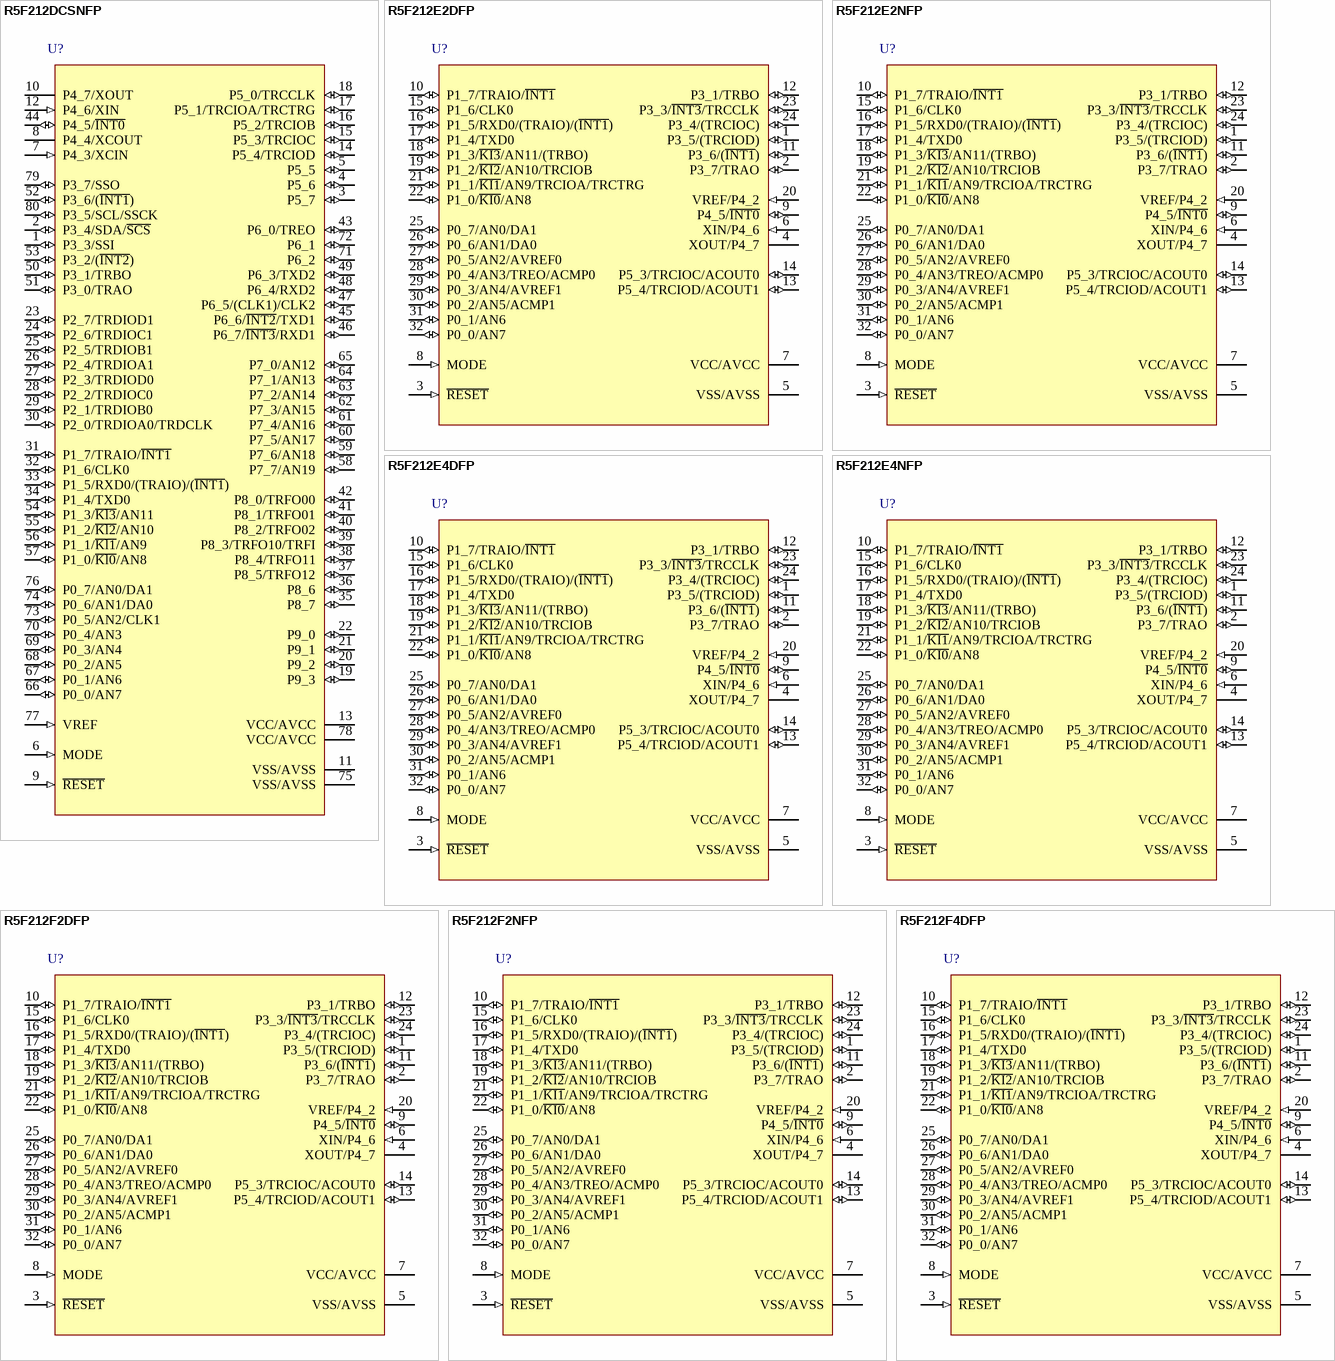
[diagram p53: symbols R5F212DCSNFP to R5F212F4DFP]

## R5F212DCSNFP
designator U?
R8C/2D Group Single Chip 16-Bit CMOS MCU, 128K ROM + 1K x2 Data Flash, 7.5K RAM, N Version; Published: 30-Oct-2009; DatasheetVersion: Rev.2.10, Dec-2007; PackageVersion: Sep-2005; PackageReference: PLQP0080KB-A; Publisher: Altium Limited; PackageDescription: 80-Pin Plastic Low Profile QFP, 12 x 12 x 1.4 mm Body, 0.5 mm Pitch; Code_JEITA: P-LQFP80-12x12-0.50; Code_IPC: SQFP50P1400X1400-80; ComponentLink1Description: Manufacturer Link; ComponentLink1URL: http://sg.renesas.com/fmwk.jsp?cnt=r8c_family_landing.jsp&fp=/products/mpumcu/r8c_family/; ComponentLink2Description: Datasheet; ComponentLink2URL: http://documentation.renesas.com/eng/products/mpumcu/rej03b0183_r8c2c2dds.pdf; ComponentLink3Description: Packaging Specification; ComponentLink3URL: http://sg.renesas.com/media/products/common_info/package/pdf/ic/code/plqp0080kb_a.pdf
footprint PLQP0080KB-A_N (Shrink QFP, 80-Leads, Body 12x12mm, Pitch 0.5mm, IPC Medium Density)
footprint PLQP0080KB-A_L (Shrink QFP, 80-Leads, Body 12x12mm, Pitch 0.5mm, IPC High Density)
footprint PLQP0080KB-A_M (Shrink QFP, 80-Leads, Body 12x12mm, Pitch 0.5mm, IPC Low Density)
pins: 1 P3_3/SSI (io), 2 P3_4/SDA/~{SCS} (io), 3 P5_7 (io), 4 P5_6 (io), 5 P5_5 (io), 6 MODE (in), 7 P4_3/XCIN (in), 8 P4_4/XCOUT, 9 ~{RESET} (in), 10 P4_7/XOUT, 11 VSS/AVSS (power), 12 P4_6/XIN (in), 13 VCC/AVCC (power), 14 P5_4/TRCIOD (io), 15 P5_3/TRCIOC (io), 16 P5_2/TRCIOB (io), 17 P5_1/TRCIOA/TRCTRG (io), 18 P5_0/TRCCLK (io), 19 P9_3 (io), 20 P9_2 (io), 21 P9_1 (io), 22 P9_0 (io), 23 P2_7/TRDIOD1 (io), 24 P2_6/TRDIOC1 (io), 25 P2_5/TRDIOB1 (io), 26 P2_4/TRDIOA1 (io), 27 P2_3/TRDIOD0 (io), 28 P2_2/TRDIOC0 (io), 29 P2_1/TRDIOB0 (io), 30 P2_0/TRDIOA0/TRDCLK (io), 31 P1_7/TRAIO/~{INT1} (io), 32 P1_6/CLK0 (io), 33 P1_5/RXD0/(TRAIO)/(~{INT1}) (io), 34 P1_4/TXD0 (io), 35 P8_7 (io), 36 P8_6 (io), 37 P8_5/TRFO12 (io), 38 P8_4/TRFO11 (io), 39 P8_3/TRFO10/TRFI (io), 40 P8_2/TRFO02 (io), 41 P8_1/TRFO01 (io), 42 P8_0/TRFO00 (io), 43 P6_0/TREO (io), 44 P4_5/~{INT0} (io), 45 P6_6/~{INT2}/TXD1 (io), 46 P6_7/~{INT3}/RXD1 (io), 47 P6_5/(CLK1)/CLK2 (io), 48 P6_4/RXD2 (io), 49 P6_3/TXD2 (io), 50 P3_1/TRBO (io), 51 P3_0/TRAO (io), 52 P3_6/(~{INT1}) (io), 53 P3_2/(~{INT2}) (io), 54 P1_3/~{Kl3}/AN11 (io), 55 P1_2/~{Kl2}/AN10 (io), 56 P1_1/~{Kl1}/AN9 (io), 57 P1_0/~{Kl0}/AN8 (io), 58 P7_7/AN19 (io), 59 P7_6/AN18 (io), 60 P7_5/AN17 (io), 61 P7_4/AN16 (io), 62 P7_3/AN15 (io), 63 P7_2/AN14 (io), 64 P7_1/AN13 (io), 65 P7_0/AN12 (io), 66 P0_0/AN7 (io), 67 P0_1/AN6 (io), 68 P0_2/AN5 (io), 69 P0_3/AN4 (io), 70 P0_4/AN3 (io), 71 P6_2 (io), 72 P6_1 (io), 73 P0_5/AN2/CLK1 (io), 74 P0_6/AN1/DA0 (io), 75 VSS/AVSS (power), 76 P0_7/AN0/DA1 (io), 77 VREF (in), 78 VCC/AVCC (power), 79 P3_7/SSO (io), 80 P3_5/SCL/SSCK (io)

## R5F212E2DFP
designator U?
R8C/2E Group Single Chip 16-Bit CMOS MCU, 8K ROM, 512b RAM, D Version; Published: 30-Oct-2009; DatasheetVersion: Rev.1.00, Dec-2007; PackageVersion: Oct-2005; PackageReference: PLQP0032GB-A; Publisher: Altium Limited; PackageDescription: 32-Pin Plastic Low Profile QFP, 7 x 7 x 1.4 mm Body, 0.8 mm Pitch; Code_JEITA: P-LQFP32-7x7-0.80; ComponentLink1Description: Manufacturer Link; ComponentLink1URL: http://sg.renesas.com/fmwk.jsp?cnt=r8c_family_landing.jsp&fp=/products/mpumcu/r8c_family/; ComponentLink2Description: Datasheet; ComponentLink2URL: http://documentation.renesas.com/eng/products/mpumcu/rej03b0222_r8c2e2fds.pdf; ComponentLink3Description: Packaging Specification; ComponentLink3URL: http://sg.renesas.com/media/products/common_info/package/pdf/ic/code/plqp0032gb_a.pdf
footprint PLQP0032GB-A_N (QFP, 32-Leads, Body 7x7mm, Pitch 0.8mm, IPC Medium Density)
footprint PLQP0032GB-A_L (QFP, 32-Leads, Body 7x7mm, Pitch 0.8mm, IPC High Density)
footprint PLQP0032GB-A_M (QFP, 32-Leads, Body 7x7mm, Pitch 0.8mm, IPC Low Density)
pins: 1 P3_5/(TRCIOD) (io), 2 P3_7/TRAO (io), 3 ~{RESET} (in), 4 XOUT/P4_7, 5 VSS/AVSS (power), 6 XIN/P4_6 (in), 7 VCC/AVCC (power), 8 MODE (in), 9 P4_5/~{INT0} (io), 10 P1_7/TRAIO/~{INT1} (io), 11 P3_6/(~{INT1}) (io), 12 P3_1/TRBO (io), 13 P5_4/TRCIOD/ACOUT1 (io), 14 P5_3/TRCIOC/ACOUT0 (io), 15 P1_6/CLK0 (io), 16 P1_5/RXD0/(TRAIO)/(~{INT1}) (io), 17 P1_4/TXD0 (io), 18 P1_3/~{KI3}/AN11/(TRBO) (io), 19 P1_2/~{KI2}/AN10/TRCIOB (io), 20 VREF/P4_2 (in), 21 P1_1/~{KI1}/AN9/TRCIOA/TRCTRG (io), 22 P1_0/~{KI0}/AN8 (io), 23 P3_3/~{INT3}/TRCCLK (io), 24 P3_4/(TRCIOC) (io), 25 P0_7/AN0/DA1 (io), 26 P0_6/AN1/DA0 (io), 27 P0_5/AN2/AVREF0 (io), 28 P0_4/AN3/TREO/ACMP0 (io), 29 P0_3/AN4/AVREF1 (io), 30 P0_2/AN5/ACMP1 (io), 31 P0_1/AN6 (io), 32 P0_0/AN7 (io)

## R5F212E2NFP
designator U?
R8C/2E Group Single Chip 16-Bit CMOS MCU, 8K ROM, 512b RAM, N Version; Published: 30-Oct-2009; DatasheetVersion: Rev.1.00, Dec-2007; PackageVersion: Oct-2005; PackageReference: PLQP0032GB-A; Publisher: Altium Limited; PackageDescription: 32-Pin Plastic Low Profile QFP, 7 x 7 x 1.4 mm Body, 0.8 mm Pitch; Code_JEITA: P-LQFP32-7x7-0.80; ComponentLink1Description: Manufacturer Link; ComponentLink1URL: http://sg.renesas.com/fmwk.jsp?cnt=r8c_family_landing.jsp&fp=/products/mpumcu/r8c_family/; ComponentLink2Description: Datasheet; ComponentLink2URL: http://documentation.renesas.com/eng/products/mpumcu/rej03b0222_r8c2e2fds.pdf; ComponentLink3Description: Packaging Specification; ComponentLink3URL: http://sg.renesas.com/media/products/common_info/package/pdf/ic/code/plqp0032gb_a.pdf
footprint PLQP0032GB-A_N (QFP, 32-Leads, Body 7x7mm, Pitch 0.8mm, IPC Medium Density)
footprint PLQP0032GB-A_L (QFP, 32-Leads, Body 7x7mm, Pitch 0.8mm, IPC High Density)
footprint PLQP0032GB-A_M (QFP, 32-Leads, Body 7x7mm, Pitch 0.8mm, IPC Low Density)
pins: 1 P3_5/(TRCIOD) (io), 2 P3_7/TRAO (io), 3 ~{RESET} (in), 4 XOUT/P4_7, 5 VSS/AVSS (power), 6 XIN/P4_6 (in), 7 VCC/AVCC (power), 8 MODE (in), 9 P4_5/~{INT0} (io), 10 P1_7/TRAIO/~{INT1} (io), 11 P3_6/(~{INT1}) (io), 12 P3_1/TRBO (io), 13 P5_4/TRCIOD/ACOUT1 (io), 14 P5_3/TRCIOC/ACOUT0 (io), 15 P1_6/CLK0 (io), 16 P1_5/RXD0/(TRAIO)/(~{INT1}) (io), 17 P1_4/TXD0 (io), 18 P1_3/~{KI3}/AN11/(TRBO) (io), 19 P1_2/~{KI2}/AN10/TRCIOB (io), 20 VREF/P4_2 (in), 21 P1_1/~{KI1}/AN9/TRCIOA/TRCTRG (io), 22 P1_0/~{KI0}/AN8 (io), 23 P3_3/~{INT3}/TRCCLK (io), 24 P3_4/(TRCIOC) (io), 25 P0_7/AN0/DA1 (io), 26 P0_6/AN1/DA0 (io), 27 P0_5/AN2/AVREF0 (io), 28 P0_4/AN3/TREO/ACMP0 (io), 29 P0_3/AN4/AVREF1 (io), 30 P0_2/AN5/ACMP1 (io), 31 P0_1/AN6 (io), 32 P0_0/AN7 (io)

## R5F212E4DFP
designator U?
R8C/2E Group Single Chip 16-Bit CMOS MCU, 16K ROM, 1K RAM, D Version; Published: 30-Oct-2009; DatasheetVersion: Rev.1.00, Dec-2007; PackageVersion: Oct-2005; PackageReference: PLQP0032GB-A; Publisher: Altium Limited; PackageDescription: 32-Pin Plastic Low Profile QFP, 7 x 7 x 1.4 mm Body, 0.8 mm Pitch; Code_JEITA: P-LQFP32-7x7-0.80; ComponentLink1Description: Manufacturer Link; ComponentLink1URL: http://sg.renesas.com/fmwk.jsp?cnt=r8c_family_landing.jsp&fp=/products/mpumcu/r8c_family/; ComponentLink2Description: Datasheet; ComponentLink2URL: http://documentation.renesas.com/eng/products/mpumcu/rej03b0222_r8c2e2fds.pdf; ComponentLink3Description: Packaging Specification; ComponentLink3URL: http://sg.renesas.com/media/products/common_info/package/pdf/ic/code/plqp0032gb_a.pdf
footprint PLQP0032GB-A_N (QFP, 32-Leads, Body 7x7mm, Pitch 0.8mm, IPC Medium Density)
footprint PLQP0032GB-A_L (QFP, 32-Leads, Body 7x7mm, Pitch 0.8mm, IPC High Density)
footprint PLQP0032GB-A_M (QFP, 32-Leads, Body 7x7mm, Pitch 0.8mm, IPC Low Density)
pins: 1 P3_5/(TRCIOD) (io), 2 P3_7/TRAO (io), 3 ~{RESET} (in), 4 XOUT/P4_7, 5 VSS/AVSS (power), 6 XIN/P4_6 (in), 7 VCC/AVCC (power), 8 MODE (in), 9 P4_5/~{INT0} (io), 10 P1_7/TRAIO/~{INT1} (io), 11 P3_6/(~{INT1}) (io), 12 P3_1/TRBO (io), 13 P5_4/TRCIOD/ACOUT1 (io), 14 P5_3/TRCIOC/ACOUT0 (io), 15 P1_6/CLK0 (io), 16 P1_5/RXD0/(TRAIO)/(~{INT1}) (io), 17 P1_4/TXD0 (io), 18 P1_3/~{KI3}/AN11/(TRBO) (io), 19 P1_2/~{KI2}/AN10/TRCIOB (io), 20 VREF/P4_2 (in), 21 P1_1/~{KI1}/AN9/TRCIOA/TRCTRG (io), 22 P1_0/~{KI0}/AN8 (io), 23 P3_3/~{INT3}/TRCCLK (io), 24 P3_4/(TRCIOC) (io), 25 P0_7/AN0/DA1 (io), 26 P0_6/AN1/DA0 (io), 27 P0_5/AN2/AVREF0 (io), 28 P0_4/AN3/TREO/ACMP0 (io), 29 P0_3/AN4/AVREF1 (io), 30 P0_2/AN5/ACMP1 (io), 31 P0_1/AN6 (io), 32 P0_0/AN7 (io)

## R5F212E4NFP
designator U?
R8C/2E Group Single Chip 16-Bit CMOS MCU, 16K ROM, 1K RAM, N Version; Published: 30-Oct-2009; DatasheetVersion: Rev.1.00, Dec-2007; PackageVersion: Oct-2005; PackageReference: PLQP0032GB-A; Publisher: Altium Limited; PackageDescription: 32-Pin Plastic Low Profile QFP, 7 x 7 x 1.4 mm Body, 0.8 mm Pitch; Code_JEITA: P-LQFP32-7x7-0.80; ComponentLink1Description: Manufacturer Link; ComponentLink1URL: http://sg.renesas.com/fmwk.jsp?cnt=r8c_family_landing.jsp&fp=/products/mpumcu/r8c_family/; ComponentLink2Description: Datasheet; ComponentLink2URL: http://documentation.renesas.com/eng/products/mpumcu/rej03b0222_r8c2e2fds.pdf; ComponentLink3Description: Packaging Specification; ComponentLink3URL: http://sg.renesas.com/media/products/common_info/package/pdf/ic/code/plqp0032gb_a.pdf
footprint PLQP0032GB-A_N (QFP, 32-Leads, Body 7x7mm, Pitch 0.8mm, IPC Medium Density)
footprint PLQP0032GB-A_L (QFP, 32-Leads, Body 7x7mm, Pitch 0.8mm, IPC High Density)
footprint PLQP0032GB-A_M (QFP, 32-Leads, Body 7x7mm, Pitch 0.8mm, IPC Low Density)
pins: 1 P3_5/(TRCIOD) (io), 2 P3_7/TRAO (io), 3 ~{RESET} (in), 4 XOUT/P4_7, 5 VSS/AVSS (power), 6 XIN/P4_6 (in), 7 VCC/AVCC (power), 8 MODE (in), 9 P4_5/~{INT0} (io), 10 P1_7/TRAIO/~{INT1} (io), 11 P3_6/(~{INT1}) (io), 12 P3_1/TRBO (io), 13 P5_4/TRCIOD/ACOUT1 (io), 14 P5_3/TRCIOC/ACOUT0 (io), 15 P1_6/CLK0 (io), 16 P1_5/RXD0/(TRAIO)/(~{INT1}) (io), 17 P1_4/TXD0 (io), 18 P1_3/~{KI3}/AN11/(TRBO) (io), 19 P1_2/~{KI2}/AN10/TRCIOB (io), 20 VREF/P4_2 (in), 21 P1_1/~{KI1}/AN9/TRCIOA/TRCTRG (io), 22 P1_0/~{KI0}/AN8 (io), 23 P3_3/~{INT3}/TRCCLK (io), 24 P3_4/(TRCIOC) (io), 25 P0_7/AN0/DA1 (io), 26 P0_6/AN1/DA0 (io), 27 P0_5/AN2/AVREF0 (io), 28 P0_4/AN3/TREO/ACMP0 (io), 29 P0_3/AN4/AVREF1 (io), 30 P0_2/AN5/ACMP1 (io), 31 P0_1/AN6 (io), 32 P0_0/AN7 (io)

## R5F212F2DFP
designator U?
R8C/2F Group Single Chip 16-Bit CMOS MCU, 8K ROM + 1K x2 Data Flash, 512b RAM, D Version; Published: 30-Oct-2009; DatasheetVersion: Rev.1.00, Dec-2007; PackageVersion: Oct-2005; PackageReference: PLQP0032GB-A; Publisher: Altium Limited; PackageDescription: 32-Pin Plastic Low Profile QFP, 7 x 7 x 1.4 mm Body, 0.8 mm Pitch; Code_JEITA: P-LQFP32-7x7-0.80; ComponentLink1Description: Manufacturer Link; ComponentLink1URL: http://sg.renesas.com/fmwk.jsp?cnt=r8c_family_landing.jsp&fp=/products/mpumcu/r8c_family/; ComponentLink2Description: Datasheet; ComponentLink2URL: http://documentation.renesas.com/eng/products/mpumcu/rej03b0222_r8c2e2fds.pdf; ComponentLink3Description: Packaging Specification; ComponentLink3URL: http://sg.renesas.com/media/products/common_info/package/pdf/ic/code/plqp0032gb_a.pdf
footprint PLQP0032GB-A_N (QFP, 32-Leads, Body 7x7mm, Pitch 0.8mm, IPC Medium Density)
footprint PLQP0032GB-A_L (QFP, 32-Leads, Body 7x7mm, Pitch 0.8mm, IPC High Density)
footprint PLQP0032GB-A_M (QFP, 32-Leads, Body 7x7mm, Pitch 0.8mm, IPC Low Density)
pins: 1 P3_5/(TRCIOD) (io), 2 P3_7/TRAO (io), 3 ~{RESET} (in), 4 XOUT/P4_7, 5 VSS/AVSS (power), 6 XIN/P4_6 (in), 7 VCC/AVCC (power), 8 MODE (in), 9 P4_5/~{INT0} (io), 10 P1_7/TRAIO/~{INT1} (io), 11 P3_6/(~{INT1}) (io), 12 P3_1/TRBO (io), 13 P5_4/TRCIOD/ACOUT1 (io), 14 P5_3/TRCIOC/ACOUT0 (io), 15 P1_6/CLK0 (io), 16 P1_5/RXD0/(TRAIO)/(~{INT1}) (io), 17 P1_4/TXD0 (io), 18 P1_3/~{KI3}/AN11/(TRBO) (io), 19 P1_2/~{KI2}/AN10/TRCIOB (io), 20 VREF/P4_2 (in), 21 P1_1/~{KI1}/AN9/TRCIOA/TRCTRG (io), 22 P1_0/~{KI0}/AN8 (io), 23 P3_3/~{INT3}/TRCCLK (io), 24 P3_4/(TRCIOC) (io), 25 P0_7/AN0/DA1 (io), 26 P0_6/AN1/DA0 (io), 27 P0_5/AN2/AVREF0 (io), 28 P0_4/AN3/TREO/ACMP0 (io), 29 P0_3/AN4/AVREF1 (io), 30 P0_2/AN5/ACMP1 (io), 31 P0_1/AN6 (io), 32 P0_0/AN7 (io)

## R5F212F2NFP
designator U?
R8C/2F Group Single Chip 16-Bit CMOS MCU, 8K ROM + 1K x2 Data Flash, 512b RAM, N Version; Published: 30-Oct-2009; DatasheetVersion: Rev.1.00, Dec-2007; PackageVersion: Oct-2005; PackageReference: PLQP0032GB-A; Publisher: Altium Limited; PackageDescription: 32-Pin Plastic Low Profile QFP, 7 x 7 x 1.4 mm Body, 0.8 mm Pitch; Code_JEITA: P-LQFP32-7x7-0.80; ComponentLink1Description: Manufacturer Link; ComponentLink1URL: http://sg.renesas.com/fmwk.jsp?cnt=r8c_family_landing.jsp&fp=/products/mpumcu/r8c_family/; ComponentLink2Description: Datasheet; ComponentLink2URL: http://documentation.renesas.com/eng/products/mpumcu/rej03b0222_r8c2e2fds.pdf; ComponentLink3Description: Packaging Specification; ComponentLink3URL: http://sg.renesas.com/media/products/common_info/package/pdf/ic/code/plqp0032gb_a.pdf
footprint PLQP0032GB-A_N (QFP, 32-Leads, Body 7x7mm, Pitch 0.8mm, IPC Medium Density)
footprint PLQP0032GB-A_L (QFP, 32-Leads, Body 7x7mm, Pitch 0.8mm, IPC High Density)
footprint PLQP0032GB-A_M (QFP, 32-Leads, Body 7x7mm, Pitch 0.8mm, IPC Low Density)
pins: 1 P3_5/(TRCIOD) (io), 2 P3_7/TRAO (io), 3 ~{RESET} (in), 4 XOUT/P4_7, 5 VSS/AVSS (power), 6 XIN/P4_6 (in), 7 VCC/AVCC (power), 8 MODE (in), 9 P4_5/~{INT0} (io), 10 P1_7/TRAIO/~{INT1} (io), 11 P3_6/(~{INT1}) (io), 12 P3_1/TRBO (io), 13 P5_4/TRCIOD/ACOUT1 (io), 14 P5_3/TRCIOC/ACOUT0 (io), 15 P1_6/CLK0 (io), 16 P1_5/RXD0/(TRAIO)/(~{INT1}) (io), 17 P1_4/TXD0 (io), 18 P1_3/~{KI3}/AN11/(TRBO) (io), 19 P1_2/~{KI2}/AN10/TRCIOB (io), 20 VREF/P4_2 (in), 21 P1_1/~{KI1}/AN9/TRCIOA/TRCTRG (io), 22 P1_0/~{KI0}/AN8 (io), 23 P3_3/~{INT3}/TRCCLK (io), 24 P3_4/(TRCIOC) (io), 25 P0_7/AN0/DA1 (io), 26 P0_6/AN1/DA0 (io), 27 P0_5/AN2/AVREF0 (io), 28 P0_4/AN3/TREO/ACMP0 (io), 29 P0_3/AN4/AVREF1 (io), 30 P0_2/AN5/ACMP1 (io), 31 P0_1/AN6 (io), 32 P0_0/AN7 (io)

## R5F212F4DFP
designator U?
R8C/2F Group Single Chip 16-Bit CMOS MCU, 16K ROM + 1K x2 Data Flash, 1K RAM, D Version; Published: 30-Oct-2009; DatasheetVersion: Rev.1.00, Dec-2007; PackageVersion: Oct-2005; PackageReference: PLQP0032GB-A; Publisher: Altium Limited; PackageDescription: 32-Pin Plastic Low Profile QFP, 7 x 7 x 1.4 mm Body, 0.8 mm Pitch; Code_JEITA: P-LQFP32-7x7-0.80; ComponentLink1Description: Manufacturer Link; ComponentLink1URL: http://sg.renesas.com/fmwk.jsp?cnt=r8c_family_landing.jsp&fp=/products/mpumcu/r8c_family/; ComponentLink2Description: Datasheet; ComponentLink2URL: http://documentation.renesas.com/eng/products/mpumcu/rej03b0222_r8c2e2fds.pdf; ComponentLink3Description: Packaging Specification; ComponentLink3URL: http://sg.renesas.com/media/products/common_info/package/pdf/ic/code/plqp0032gb_a.pdf
footprint PLQP0032GB-A_N (QFP, 32-Leads, Body 7x7mm, Pitch 0.8mm, IPC Medium Density)
footprint PLQP0032GB-A_L (QFP, 32-Leads, Body 7x7mm, Pitch 0.8mm, IPC High Density)
footprint PLQP0032GB-A_M (QFP, 32-Leads, Body 7x7mm, Pitch 0.8mm, IPC Low Density)
pins: 1 P3_5/(TRCIOD) (io), 2 P3_7/TRAO (io), 3 ~{RESET} (in), 4 XOUT/P4_7, 5 VSS/AVSS (power), 6 XIN/P4_6 (in), 7 VCC/AVCC (power), 8 MODE (in), 9 P4_5/~{INT0} (io), 10 P1_7/TRAIO/~{INT1} (io), 11 P3_6/(~{INT1}) (io), 12 P3_1/TRBO (io), 13 P5_4/TRCIOD/ACOUT1 (io), 14 P5_3/TRCIOC/ACOUT0 (io), 15 P1_6/CLK0 (io), 16 P1_5/RXD0/(TRAIO)/(~{INT1}) (io), 17 P1_4/TXD0 (io), 18 P1_3/~{KI3}/AN11/(TRBO) (io), 19 P1_2/~{KI2}/AN10/TRCIOB (io), 20 VREF/P4_2 (in), 21 P1_1/~{KI1}/AN9/TRCIOA/TRCTRG (io), 22 P1_0/~{KI0}/AN8 (io), 23 P3_3/~{INT3}/TRCCLK (io), 24 P3_4/(TRCIOC) (io), 25 P0_7/AN0/DA1 (io), 26 P0_6/AN1/DA0 (io), 27 P0_5/AN2/AVREF0 (io), 28 P0_4/AN3/TREO/ACMP0 (io), 29 P0_3/AN4/AVREF1 (io), 30 P0_2/AN5/ACMP1 (io), 31 P0_1/AN6 (io), 32 P0_0/AN7 (io)

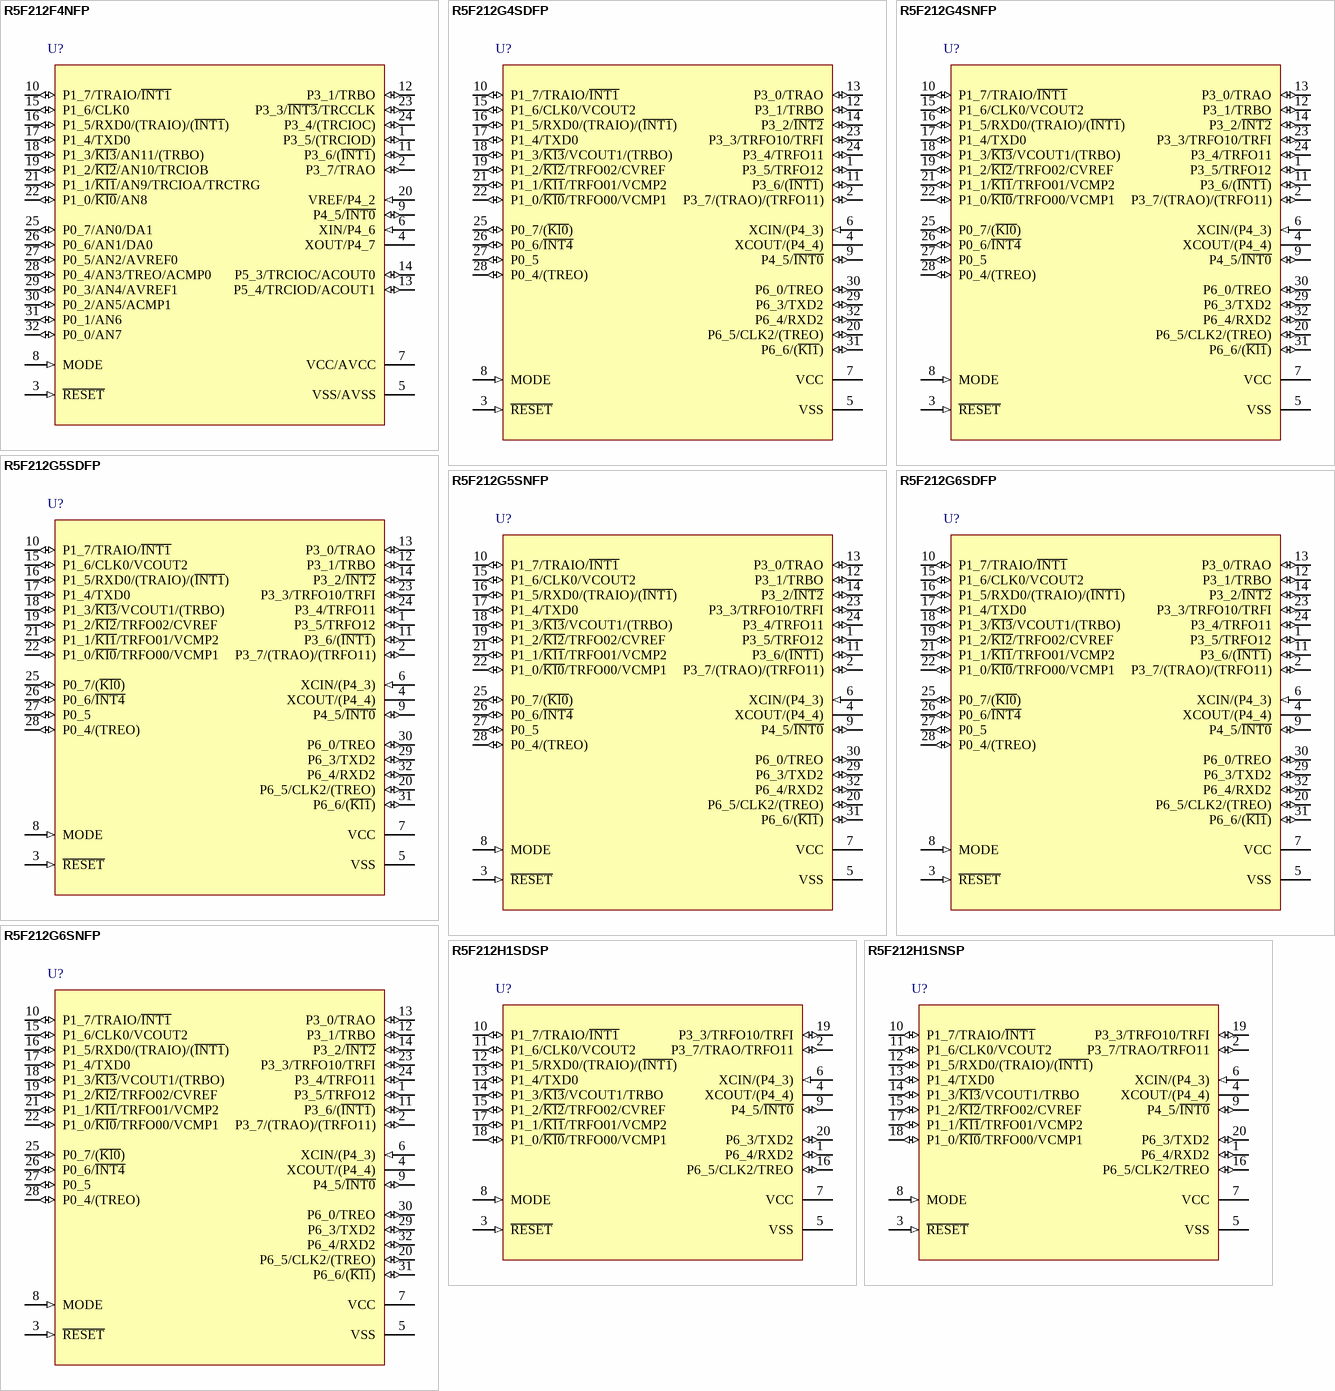
[diagram p54: symbols R5F212F4NFP to R5F212H1SNSP]